# Altium schematic symbol library NXP Semiconductors Cortex-M0.SchLib: 92 symbols (part 4 of 5)
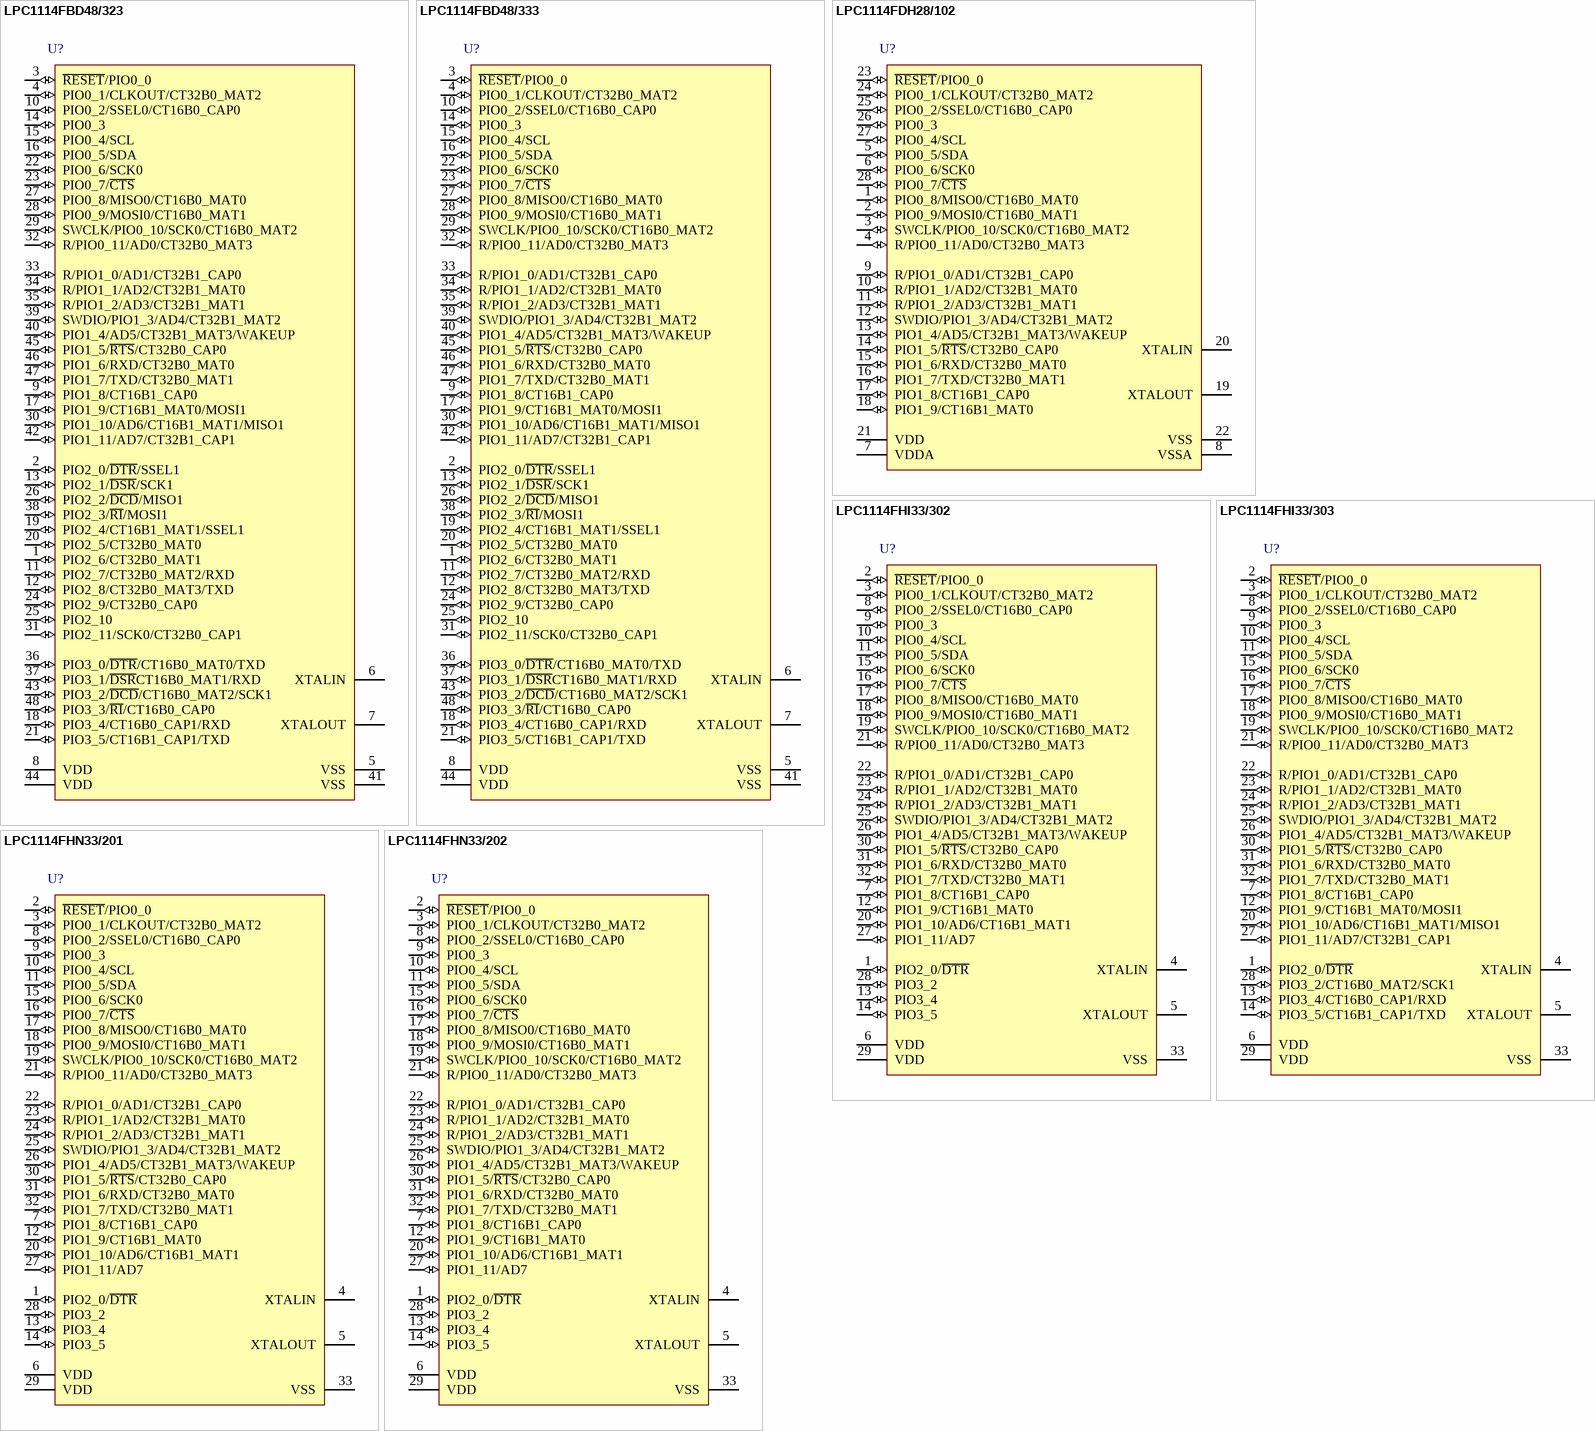
[diagram p19: symbols LPC1114FBD48/323 to LPC1114FHN33/202]

## LPC1114FHI33/302
designator U?
32-bit ARM Cortex-M0 MCU, LPC1100L Series, 32 kB Flash, 8 kB SRAM, 1 SPI, ADC, 32-Pin HVQFN; PartNumber: LPC1114FHI33/302; fmax: 50 MHz; SRAM: 8 kB; Flash: 32 kB; GPIOs: 28; UART: 1; PLL: Y; Timers: 4; ADC channels: 8; VDD (min): 1.8 V; VDD (typ): 3.3 V; VDD (max): 3.6 V; DatasheetVersion: Rev. 7.1, Apr-2012; PackageVersion: Jun-2011; PackageReference: SOT617-3; PackageDescription: HVQFN32: Plastic Thermal Enhanced Very Thin Quad Flat Package; No Leads; 32 Terminals; Body 5 x 5 x 0.85 mm; I2C: 1; SPI: 1; Code_JEDEC: MO-220; ComponentLink1Description: Manufacturer URL; ComponentLink1URL: http://www.nxp.com/; ComponentLink2Description: Datasheet; ComponentLink2URL: http://www.nxp.com/documents/data_sheet/LPC111X.pdf
footprint SOT617-3_V (QFN, 32-Leads, Body 5x5mm, Pitch 0.5mm, Thermal Pad 3.5x3.5mm, NXP Recommended)
pins: 1 PIO2_0/~{DTR} (io), 2 ~{RESET}/PIO0_0 (io), 3 PIO0_1/CLKOUT/CT32B0_MAT2 (io), 4 XTALIN, 5 XTALOUT, 6 VDD (power), 7 PIO1_8/CT16B1_CAP0 (io), 8 PIO0_2/SSEL0/CT16B0_CAP0 (io), 9 PIO0_3 (io), 10 PIO0_4/SCL (io), 11 PIO0_5/SDA (io), 12 PIO1_9/CT16B1_MAT0 (io), 13 PIO3_4 (io), 14 PIO3_5 (io), 15 PIO0_6/SCK0 (io), 16 PIO0_7/~{CTS} (io), 17 PIO0_8/MISO0/CT16B0_MAT0 (io), 18 PIO0_9/MOSI0/CT16B0_MAT1 (io), 19 SWCLK/PIO0_10/SCK0/CT16B0_MAT2 (io), 20 PIO1_10/AD6/CT16B1_MAT1 (io), 21 R/PIO0_11/AD0/CT32B0_MAT3 (io), 22 R/PIO1_0/AD1/CT32B1_CAP0 (io), 23 R/PIO1_1/AD2/CT32B1_MAT0 (io), 24 R/PIO1_2/AD3/CT32B1_MAT1 (io), 25 SWDIO/PIO1_3/AD4/CT32B1_MAT2 (io), 26 PIO1_4/AD5/CT32B1_MAT3/WAKEUP (io), 27 PIO1_11/AD7 (io), 28 PIO3_2 (io), 29 VDD (power), 30 PIO1_5/~{RTS}/CT32B0_CAP0 (io), 31 PIO1_6/RXD/CT32B0_MAT0 (io), 32 PIO1_7/TXD/CT32B0_MAT1 (io), 33 VSS (power)

## LPC1114FHI33/303
designator U?
32-bit ARM Cortex-M0 MCU, LPC1100XL Series, 32 kB Flash, 8 kB SRAM, 2 SPI, ADC, 32-Pin HVQFN; PartNumber: LPC1114FHI33/303; fmax: 50 MHz; SRAM: 8 kB; Flash: 32 kB; GPIOs: 28; UART: 1; SPI: 2; PLL: Y; Timers: 4; ADC channels: 8; VDD (min): 1.8 V; VDD (typ): 3.3 V; VDD (max): 3.6 V; DatasheetVersion: Rev. 7.1, Apr-2012; PackageVersion: Jun-2011; PackageReference: SOT617-3; PackageDescription: HVQFN32: Plastic Thermal Enhanced Very Thin Quad Flat Package; No Leads; 32 Terminals; Body 5 x 5 x 0.85 mm; I2C: 1; Code_JEDEC: MO-220; ComponentLink1Description: Manufacturer URL; ComponentLink1URL: http://www.nxp.com/; ComponentLink2Description: Datasheet; ComponentLink2URL: http://www.nxp.com/documents/data_sheet/LPC111X.pdf
footprint SOT617-3_V (QFN, 32-Leads, Body 5x5mm, Pitch 0.5mm, Thermal Pad 3.5x3.5mm, NXP Recommended)
pins: 1 PIO2_0/~{DTR} (io), 2 ~{RESET}/PIO0_0 (io), 3 PIO0_1/CLKOUT/CT32B0_MAT2 (io), 4 XTALIN, 5 XTALOUT, 6 VDD (power), 7 PIO1_8/CT16B1_CAP0 (io), 8 PIO0_2/SSEL0/CT16B0_CAP0 (io), 9 PIO0_3 (io), 10 PIO0_4/SCL (io), 11 PIO0_5/SDA (io), 12 PIO1_9/CT16B1_MAT0/MOSI1 (io), 13 PIO3_4/CT16B0_CAP1/RXD (io), 14 PIO3_5/CT16B1_CAP1/TXD (io), 15 PIO0_6/SCK0 (io), 16 PIO0_7/~{CTS} (io), 17 PIO0_8/MISO0/CT16B0_MAT0 (io), 18 PIO0_9/MOSI0/CT16B0_MAT1 (io), 19 SWCLK/PIO0_10/SCK0/CT16B0_MAT2 (io), 20 PIO1_10/AD6/CT16B1_MAT1/MISO1 (io), 21 R/PIO0_11/AD0/CT32B0_MAT3 (io), 22 R/PIO1_0/AD1/CT32B1_CAP0 (io), 23 R/PIO1_1/AD2/CT32B1_MAT0 (io), 24 R/PIO1_2/AD3/CT32B1_MAT1 (io), 25 SWDIO/PIO1_3/AD4/CT32B1_MAT2 (io), 26 PIO1_4/AD5/CT32B1_MAT3/WAKEUP (io), 27 PIO1_11/AD7/CT32B1_CAP1 (io), 28 PIO3_2/CT16B0_MAT2/SCK1 (io), 29 VDD (power), 30 PIO1_5/~{RTS}/CT32B0_CAP0 (io), 31 PIO1_6/RXD/CT32B0_MAT0 (io), 32 PIO1_7/TXD/CT32B0_MAT1 (io), 33 VSS (power)

## LPC1114FHN33/201
designator U?
32-bit ARM Cortex-M0 MCU, LPC1100 Series, 32 kB Flash, 4 kB SRAM, 1 SPI, ADC, 32-Pin HVQFN; PartNumber: LPC1114FHN33/201; fmax: 50 MHz; SRAM: 4 kB; Flash: 32 kB; GPIOs: 28; UART: 1; PLL: Y; Timers: 4; ADC channels: 8; VDD (min): 1.8 V; VDD (typ): 3.3 V; VDD (max): 3.6 V; DatasheetVersion: Rev. 7.1, Apr-2012; PackageVersion: Jun-2009; PackageReference: SOT865-3; PackageDescription: HVQFN32: Plastic Thermal Enhanced Very Thin Quad Flat Package; No Leads; 32 Terminals; Body 7 x 7 x 0.85 mm; I2C: 1; SPI: 1; Code_JEDEC: MO-220; ComponentLink1Description: Manufacturer URL; ComponentLink1URL: http://www.nxp.com/; ComponentLink2Description: Datasheet; ComponentLink2URL: http://www.nxp.com/documents/data_sheet/LPC111X.pdf
footprint SOT865-3_V (QFN, 32-Leads, Body 7x7mm, Pitch 0.65mm, Thermal Pad 4.7x4.7mm, NXP Recommended)
footprint SOT865-3_N (QFN, 32-Leads, Body 7x7mm, Pitch 0.65mm, Thermal Pad 4.9x4.9mm, IPC Medium Density)
footprint SOT865-3_L (QFN, 32-Leads, Body 7x7mm, Pitch 0.65mm, Thermal Pad 4.9x4.9mm, IPC High Density)
footprint SOT865-3_M (QFN, 32-Leads, Body 7x7mm, Pitch 0.65mm, Thermal Pad 4.9x4.9mm, IPC Low Density)
pins: 1 PIO2_0/~{DTR} (io), 2 ~{RESET}/PIO0_0 (io), 3 PIO0_1/CLKOUT/CT32B0_MAT2 (io), 4 XTALIN, 5 XTALOUT, 6 VDD (power), 7 PIO1_8/CT16B1_CAP0 (io), 8 PIO0_2/SSEL0/CT16B0_CAP0 (io), 9 PIO0_3 (io), 10 PIO0_4/SCL (io), 11 PIO0_5/SDA (io), 12 PIO1_9/CT16B1_MAT0 (io), 13 PIO3_4 (io), 14 PIO3_5 (io), 15 PIO0_6/SCK0 (io), 16 PIO0_7/~{CTS} (io), 17 PIO0_8/MISO0/CT16B0_MAT0 (io), 18 PIO0_9/MOSI0/CT16B0_MAT1 (io), 19 SWCLK/PIO0_10/SCK0/CT16B0_MAT2 (io), 20 PIO1_10/AD6/CT16B1_MAT1 (io), 21 R/PIO0_11/AD0/CT32B0_MAT3 (io), 22 R/PIO1_0/AD1/CT32B1_CAP0 (io), 23 R/PIO1_1/AD2/CT32B1_MAT0 (io), 24 R/PIO1_2/AD3/CT32B1_MAT1 (io), 25 SWDIO/PIO1_3/AD4/CT32B1_MAT2 (io), 26 PIO1_4/AD5/CT32B1_MAT3/WAKEUP (io), 27 PIO1_11/AD7 (io), 28 PIO3_2 (io), 29 VDD (power), 30 PIO1_5/~{RTS}/CT32B0_CAP0 (io), 31 PIO1_6/RXD/CT32B0_MAT0 (io), 32 PIO1_7/TXD/CT32B0_MAT1 (io), 33 VSS (power)

## LPC1114FHN33/202
designator U?
32-bit ARM Cortex-M0 MCU, LPC1100L Series, 32 kB Flash, 4 kB SRAM, 1 SPI, ADC, 32-Pin HVQFN; PartNumber: LPC1114FHN33/202; fmax: 50 MHz; SRAM: 4 kB; Flash: 32 kB; GPIOs: 28; UART: 1; PLL: Y; Timers: 4; ADC channels: 8; VDD (min): 1.8 V; VDD (typ): 3.3 V; VDD (max): 3.6 V; DatasheetVersion: Rev. 7.1, Apr-2012; PackageVersion: Jun-2009; PackageReference: SOT865-3; PackageDescription: HVQFN32: Plastic Thermal Enhanced Very Thin Quad Flat Package; No Leads; 32 Terminals; Body 7 x 7 x 0.85 mm; I2C: 1; SPI: 1; Code_JEDEC: MO-220; ComponentLink1Description: Manufacturer URL; ComponentLink1URL: http://www.nxp.com/; ComponentLink2Description: Datasheet; ComponentLink2URL: http://www.nxp.com/documents/data_sheet/LPC111X.pdf
footprint SOT865-3_V (QFN, 32-Leads, Body 7x7mm, Pitch 0.65mm, Thermal Pad 4.7x4.7mm, NXP Recommended)
footprint SOT865-3_N (QFN, 32-Leads, Body 7x7mm, Pitch 0.65mm, Thermal Pad 4.9x4.9mm, IPC Medium Density)
footprint SOT865-3_L (QFN, 32-Leads, Body 7x7mm, Pitch 0.65mm, Thermal Pad 4.9x4.9mm, IPC High Density)
footprint SOT865-3_M (QFN, 32-Leads, Body 7x7mm, Pitch 0.65mm, Thermal Pad 4.9x4.9mm, IPC Low Density)
pins: 1 PIO2_0/~{DTR} (io), 2 ~{RESET}/PIO0_0 (io), 3 PIO0_1/CLKOUT/CT32B0_MAT2 (io), 4 XTALIN, 5 XTALOUT, 6 VDD (power), 7 PIO1_8/CT16B1_CAP0 (io), 8 PIO0_2/SSEL0/CT16B0_CAP0 (io), 9 PIO0_3 (io), 10 PIO0_4/SCL (io), 11 PIO0_5/SDA (io), 12 PIO1_9/CT16B1_MAT0 (io), 13 PIO3_4 (io), 14 PIO3_5 (io), 15 PIO0_6/SCK0 (io), 16 PIO0_7/~{CTS} (io), 17 PIO0_8/MISO0/CT16B0_MAT0 (io), 18 PIO0_9/MOSI0/CT16B0_MAT1 (io), 19 SWCLK/PIO0_10/SCK0/CT16B0_MAT2 (io), 20 PIO1_10/AD6/CT16B1_MAT1 (io), 21 R/PIO0_11/AD0/CT32B0_MAT3 (io), 22 R/PIO1_0/AD1/CT32B1_CAP0 (io), 23 R/PIO1_1/AD2/CT32B1_MAT0 (io), 24 R/PIO1_2/AD3/CT32B1_MAT1 (io), 25 SWDIO/PIO1_3/AD4/CT32B1_MAT2 (io), 26 PIO1_4/AD5/CT32B1_MAT3/WAKEUP (io), 27 PIO1_11/AD7 (io), 28 PIO3_2 (io), 29 VDD (power), 30 PIO1_5/~{RTS}/CT32B0_CAP0 (io), 31 PIO1_6/RXD/CT32B0_MAT0 (io), 32 PIO1_7/TXD/CT32B0_MAT1 (io), 33 VSS (power)

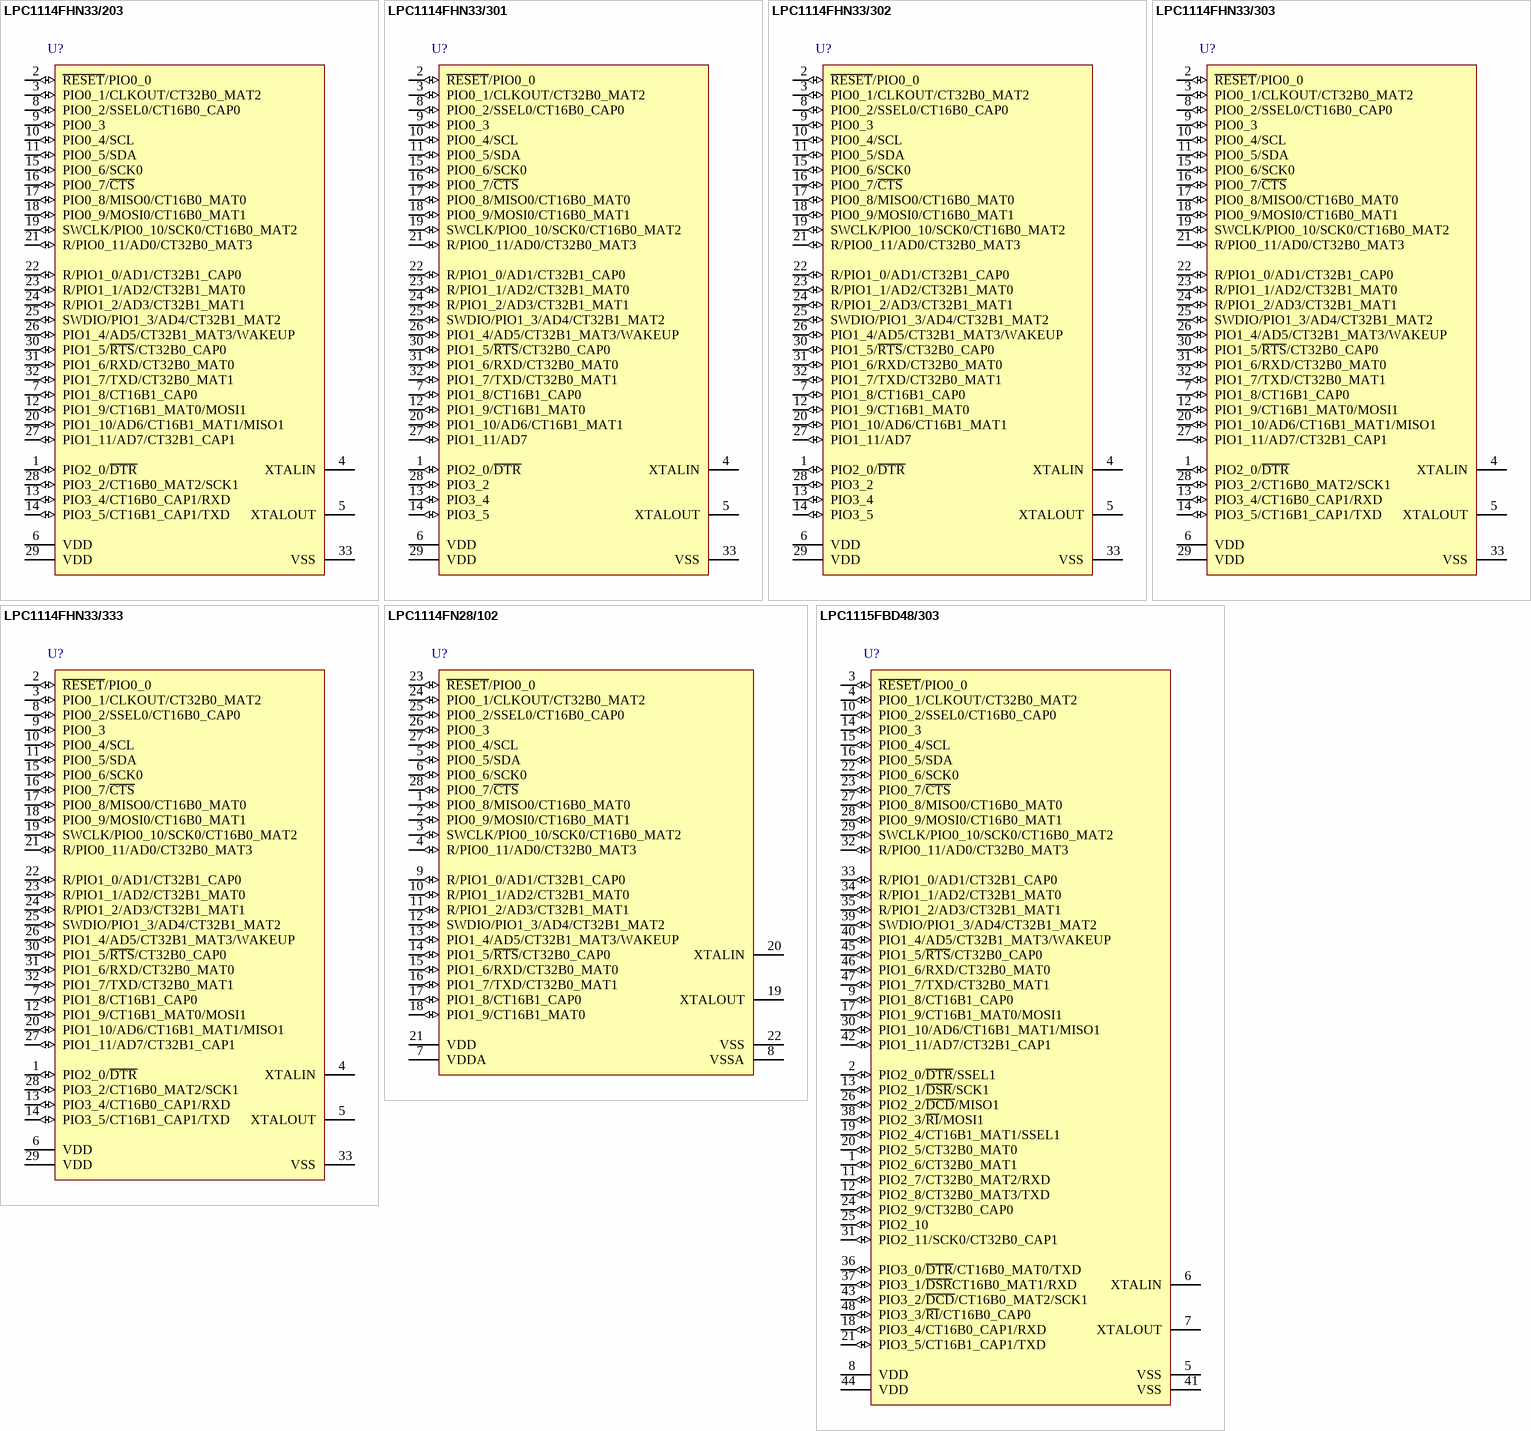
[diagram p12: symbols LPC1114FHN33/203 to LPC1115FBD48/303]

## LPC1114FHN33/203
designator U?
32-bit ARM Cortex-M0 MCU, LPC1100XL Series, 32 kB Flash, 4 kB SRAM, 2 SPI, ADC, 32-Pin HVQFN; PartNumber: LPC1114FHN33/203; fmax: 50 MHz; SRAM: 4 kB; Flash: 32 kB; GPIOs: 28; UART: 1; SPI: 2; PLL: Y; Timers: 4; ADC channels: 8; VDD (min): 1.8 V; VDD (typ): 3.3 V; VDD (max): 3.6 V; DatasheetVersion: Rev. 7.1, Apr-2012; PackageVersion: Jun-2009; PackageReference: SOT865-3; PackageDescription: HVQFN32: Plastic Thermal Enhanced Very Thin Quad Flat Package; No Leads; 32 Terminals; Body 7 x 7 x 0.85 mm; I2C: 1; Code_JEDEC: MO-220; ComponentLink1Description: Manufacturer URL; ComponentLink1URL: http://www.nxp.com/; ComponentLink2Description: Datasheet; ComponentLink2URL: http://www.nxp.com/documents/data_sheet/LPC111X.pdf
footprint SOT865-3_V (QFN, 32-Leads, Body 7x7mm, Pitch 0.65mm, Thermal Pad 4.7x4.7mm, NXP Recommended)
footprint SOT865-3_N (QFN, 32-Leads, Body 7x7mm, Pitch 0.65mm, Thermal Pad 4.9x4.9mm, IPC Medium Density)
footprint SOT865-3_L (QFN, 32-Leads, Body 7x7mm, Pitch 0.65mm, Thermal Pad 4.9x4.9mm, IPC High Density)
footprint SOT865-3_M (QFN, 32-Leads, Body 7x7mm, Pitch 0.65mm, Thermal Pad 4.9x4.9mm, IPC Low Density)
pins: 1 PIO2_0/~{DTR} (io), 2 ~{RESET}/PIO0_0 (io), 3 PIO0_1/CLKOUT/CT32B0_MAT2 (io), 4 XTALIN, 5 XTALOUT, 6 VDD (power), 7 PIO1_8/CT16B1_CAP0 (io), 8 PIO0_2/SSEL0/CT16B0_CAP0 (io), 9 PIO0_3 (io), 10 PIO0_4/SCL (io), 11 PIO0_5/SDA (io), 12 PIO1_9/CT16B1_MAT0/MOSI1 (io), 13 PIO3_4/CT16B0_CAP1/RXD (io), 14 PIO3_5/CT16B1_CAP1/TXD (io), 15 PIO0_6/SCK0 (io), 16 PIO0_7/~{CTS} (io), 17 PIO0_8/MISO0/CT16B0_MAT0 (io), 18 PIO0_9/MOSI0/CT16B0_MAT1 (io), 19 SWCLK/PIO0_10/SCK0/CT16B0_MAT2 (io), 20 PIO1_10/AD6/CT16B1_MAT1/MISO1 (io), 21 R/PIO0_11/AD0/CT32B0_MAT3 (io), 22 R/PIO1_0/AD1/CT32B1_CAP0 (io), 23 R/PIO1_1/AD2/CT32B1_MAT0 (io), 24 R/PIO1_2/AD3/CT32B1_MAT1 (io), 25 SWDIO/PIO1_3/AD4/CT32B1_MAT2 (io), 26 PIO1_4/AD5/CT32B1_MAT3/WAKEUP (io), 27 PIO1_11/AD7/CT32B1_CAP1 (io), 28 PIO3_2/CT16B0_MAT2/SCK1 (io), 29 VDD (power), 30 PIO1_5/~{RTS}/CT32B0_CAP0 (io), 31 PIO1_6/RXD/CT32B0_MAT0 (io), 32 PIO1_7/TXD/CT32B0_MAT1 (io), 33 VSS (power)

## LPC1114FHN33/301
designator U?
32-bit ARM Cortex-M0 MCU, LPC1100 Series, 32 kB Flash, 8 kB SRAM, 1 SPI, ADC, 32-Pin HVQFN; PartNumber: LPC1114FHN33/301; fmax: 50 MHz; SRAM: 8 kB; Flash: 32 kB; GPIOs: 28; UART: 1; PLL: Y; Timers: 4; ADC channels: 8; VDD (min): 1.8 V; VDD (typ): 3.3 V; VDD (max): 3.6 V; DatasheetVersion: Rev. 7.1, Apr-2012; PackageVersion: Jun-2009; PackageReference: SOT865-3; PackageDescription: HVQFN32: Plastic Thermal Enhanced Very Thin Quad Flat Package; No Leads; 32 Terminals; Body 7 x 7 x 0.85 mm; I2C: 1; SPI: 1; Code_JEDEC: MO-220; ComponentLink1Description: Manufacturer URL; ComponentLink1URL: http://www.nxp.com/; ComponentLink2Description: Datasheet; ComponentLink2URL: http://www.nxp.com/documents/data_sheet/LPC111X.pdf
footprint SOT865-3_V (QFN, 32-Leads, Body 7x7mm, Pitch 0.65mm, Thermal Pad 4.7x4.7mm, NXP Recommended)
footprint SOT865-3_N (QFN, 32-Leads, Body 7x7mm, Pitch 0.65mm, Thermal Pad 4.9x4.9mm, IPC Medium Density)
footprint SOT865-3_L (QFN, 32-Leads, Body 7x7mm, Pitch 0.65mm, Thermal Pad 4.9x4.9mm, IPC High Density)
footprint SOT865-3_M (QFN, 32-Leads, Body 7x7mm, Pitch 0.65mm, Thermal Pad 4.9x4.9mm, IPC Low Density)
pins: 1 PIO2_0/~{DTR} (io), 2 ~{RESET}/PIO0_0 (io), 3 PIO0_1/CLKOUT/CT32B0_MAT2 (io), 4 XTALIN, 5 XTALOUT, 6 VDD (power), 7 PIO1_8/CT16B1_CAP0 (io), 8 PIO0_2/SSEL0/CT16B0_CAP0 (io), 9 PIO0_3 (io), 10 PIO0_4/SCL (io), 11 PIO0_5/SDA (io), 12 PIO1_9/CT16B1_MAT0 (io), 13 PIO3_4 (io), 14 PIO3_5 (io), 15 PIO0_6/SCK0 (io), 16 PIO0_7/~{CTS} (io), 17 PIO0_8/MISO0/CT16B0_MAT0 (io), 18 PIO0_9/MOSI0/CT16B0_MAT1 (io), 19 SWCLK/PIO0_10/SCK0/CT16B0_MAT2 (io), 20 PIO1_10/AD6/CT16B1_MAT1 (io), 21 R/PIO0_11/AD0/CT32B0_MAT3 (io), 22 R/PIO1_0/AD1/CT32B1_CAP0 (io), 23 R/PIO1_1/AD2/CT32B1_MAT0 (io), 24 R/PIO1_2/AD3/CT32B1_MAT1 (io), 25 SWDIO/PIO1_3/AD4/CT32B1_MAT2 (io), 26 PIO1_4/AD5/CT32B1_MAT3/WAKEUP (io), 27 PIO1_11/AD7 (io), 28 PIO3_2 (io), 29 VDD (power), 30 PIO1_5/~{RTS}/CT32B0_CAP0 (io), 31 PIO1_6/RXD/CT32B0_MAT0 (io), 32 PIO1_7/TXD/CT32B0_MAT1 (io), 33 VSS (power)

## LPC1114FHN33/302
designator U?
32-bit ARM Cortex-M0 MCU, LPC1100L Series, 32 kB Flash, 8 kB SRAM, 1 SPI, ADC, 32-Pin HVQFN; PartNumber: LPC1114FHN33/302; fmax: 50 MHz; SRAM: 8 kB; Flash: 32 kB; GPIOs: 28; UART: 1; PLL: Y; Timers: 4; ADC channels: 8; VDD (min): 1.8 V; VDD (typ): 3.3 V; VDD (max): 3.6 V; DatasheetVersion: Rev. 7.1, Apr-2012; PackageVersion: Jun-2009; PackageReference: SOT865-3; PackageDescription: HVQFN32: Plastic Thermal Enhanced Very Thin Quad Flat Package; No Leads; 32 Terminals; Body 7 x 7 x 0.85 mm; I2C: 1; SPI: 1; Code_JEDEC: MO-220; ComponentLink1Description: Manufacturer URL; ComponentLink1URL: http://www.nxp.com/; ComponentLink2Description: Datasheet; ComponentLink2URL: http://www.nxp.com/documents/data_sheet/LPC111X.pdf
footprint SOT865-3_V (QFN, 32-Leads, Body 7x7mm, Pitch 0.65mm, Thermal Pad 4.7x4.7mm, NXP Recommended)
footprint SOT865-3_N (QFN, 32-Leads, Body 7x7mm, Pitch 0.65mm, Thermal Pad 4.9x4.9mm, IPC Medium Density)
footprint SOT865-3_L (QFN, 32-Leads, Body 7x7mm, Pitch 0.65mm, Thermal Pad 4.9x4.9mm, IPC High Density)
footprint SOT865-3_M (QFN, 32-Leads, Body 7x7mm, Pitch 0.65mm, Thermal Pad 4.9x4.9mm, IPC Low Density)
pins: 1 PIO2_0/~{DTR} (io), 2 ~{RESET}/PIO0_0 (io), 3 PIO0_1/CLKOUT/CT32B0_MAT2 (io), 4 XTALIN, 5 XTALOUT, 6 VDD (power), 7 PIO1_8/CT16B1_CAP0 (io), 8 PIO0_2/SSEL0/CT16B0_CAP0 (io), 9 PIO0_3 (io), 10 PIO0_4/SCL (io), 11 PIO0_5/SDA (io), 12 PIO1_9/CT16B1_MAT0 (io), 13 PIO3_4 (io), 14 PIO3_5 (io), 15 PIO0_6/SCK0 (io), 16 PIO0_7/~{CTS} (io), 17 PIO0_8/MISO0/CT16B0_MAT0 (io), 18 PIO0_9/MOSI0/CT16B0_MAT1 (io), 19 SWCLK/PIO0_10/SCK0/CT16B0_MAT2 (io), 20 PIO1_10/AD6/CT16B1_MAT1 (io), 21 R/PIO0_11/AD0/CT32B0_MAT3 (io), 22 R/PIO1_0/AD1/CT32B1_CAP0 (io), 23 R/PIO1_1/AD2/CT32B1_MAT0 (io), 24 R/PIO1_2/AD3/CT32B1_MAT1 (io), 25 SWDIO/PIO1_3/AD4/CT32B1_MAT2 (io), 26 PIO1_4/AD5/CT32B1_MAT3/WAKEUP (io), 27 PIO1_11/AD7 (io), 28 PIO3_2 (io), 29 VDD (power), 30 PIO1_5/~{RTS}/CT32B0_CAP0 (io), 31 PIO1_6/RXD/CT32B0_MAT0 (io), 32 PIO1_7/TXD/CT32B0_MAT1 (io), 33 VSS (power)

## LPC1114FHN33/303
designator U?
32-bit ARM Cortex-M0 MCU, LPC1100XL Series, 32 kB Flash, 8 kB SRAM, 2 SPI, ADC, 32-Pin HVQFN; PartNumber: LPC1114FHN33/303; fmax: 50 MHz; SRAM: 8 kB; Flash: 32 kB; GPIOs: 28; UART: 1; SPI: 2; PLL: Y; Timers: 4; ADC channels: 8; VDD (min): 1.8 V; VDD (typ): 3.3 V; VDD (max): 3.6 V; DatasheetVersion: Rev. 7.1, Apr-2012; PackageVersion: Jun-2009; PackageReference: SOT865-3; PackageDescription: HVQFN32: Plastic Thermal Enhanced Very Thin Quad Flat Package; No Leads; 32 Terminals; Body 7 x 7 x 0.85 mm; I2C: 1; Code_JEDEC: MO-220; ComponentLink1Description: Manufacturer URL; ComponentLink1URL: http://www.nxp.com/; ComponentLink2Description: Datasheet; ComponentLink2URL: http://www.nxp.com/documents/data_sheet/LPC111X.pdf
footprint SOT865-3_V (QFN, 32-Leads, Body 7x7mm, Pitch 0.65mm, Thermal Pad 4.7x4.7mm, NXP Recommended)
footprint SOT865-3_N (QFN, 32-Leads, Body 7x7mm, Pitch 0.65mm, Thermal Pad 4.9x4.9mm, IPC Medium Density)
footprint SOT865-3_L (QFN, 32-Leads, Body 7x7mm, Pitch 0.65mm, Thermal Pad 4.9x4.9mm, IPC High Density)
footprint SOT865-3_M (QFN, 32-Leads, Body 7x7mm, Pitch 0.65mm, Thermal Pad 4.9x4.9mm, IPC Low Density)
pins: 1 PIO2_0/~{DTR} (io), 2 ~{RESET}/PIO0_0 (io), 3 PIO0_1/CLKOUT/CT32B0_MAT2 (io), 4 XTALIN, 5 XTALOUT, 6 VDD (power), 7 PIO1_8/CT16B1_CAP0 (io), 8 PIO0_2/SSEL0/CT16B0_CAP0 (io), 9 PIO0_3 (io), 10 PIO0_4/SCL (io), 11 PIO0_5/SDA (io), 12 PIO1_9/CT16B1_MAT0/MOSI1 (io), 13 PIO3_4/CT16B0_CAP1/RXD (io), 14 PIO3_5/CT16B1_CAP1/TXD (io), 15 PIO0_6/SCK0 (io), 16 PIO0_7/~{CTS} (io), 17 PIO0_8/MISO0/CT16B0_MAT0 (io), 18 PIO0_9/MOSI0/CT16B0_MAT1 (io), 19 SWCLK/PIO0_10/SCK0/CT16B0_MAT2 (io), 20 PIO1_10/AD6/CT16B1_MAT1/MISO1 (io), 21 R/PIO0_11/AD0/CT32B0_MAT3 (io), 22 R/PIO1_0/AD1/CT32B1_CAP0 (io), 23 R/PIO1_1/AD2/CT32B1_MAT0 (io), 24 R/PIO1_2/AD3/CT32B1_MAT1 (io), 25 SWDIO/PIO1_3/AD4/CT32B1_MAT2 (io), 26 PIO1_4/AD5/CT32B1_MAT3/WAKEUP (io), 27 PIO1_11/AD7/CT32B1_CAP1 (io), 28 PIO3_2/CT16B0_MAT2/SCK1 (io), 29 VDD (power), 30 PIO1_5/~{RTS}/CT32B0_CAP0 (io), 31 PIO1_6/RXD/CT32B0_MAT0 (io), 32 PIO1_7/TXD/CT32B0_MAT1 (io), 33 VSS (power)

## LPC1114FHN33/333
designator U?
32-bit ARM Cortex-M0 MCU, LPC1100XL Series, 32 kB Flash, 8 kB SRAM, 2 SPI, ADC, 32-Pin HVQFN; PartNumber: LPC1114FHN33/333; fmax: 50 MHz; SRAM: 8 kB; Flash: 32 kB; GPIOs: 28; UART: 1; SPI: 2; PLL: Y; Timers: 4; ADC channels: 8; VDD (min): 1.8 V; VDD (typ): 3.3 V; VDD (max): 3.6 V; DatasheetVersion: Rev. 7.1, Apr-2012; PackageVersion: Jun-2009; PackageReference: SOT865-3; PackageDescription: HVQFN32: Plastic Thermal Enhanced Very Thin Quad Flat Package; No Leads; 32 Terminals; Body 7 x 7 x 0.85 mm; I2C: 1; Code_JEDEC: MO-220; ComponentLink1Description: Manufacturer URL; ComponentLink1URL: http://www.nxp.com/; ComponentLink2Description: Datasheet; ComponentLink2URL: http://www.nxp.com/documents/data_sheet/LPC111X.pdf
footprint SOT865-3_V (QFN, 32-Leads, Body 7x7mm, Pitch 0.65mm, Thermal Pad 4.7x4.7mm, NXP Recommended)
footprint SOT865-3_N (QFN, 32-Leads, Body 7x7mm, Pitch 0.65mm, Thermal Pad 4.9x4.9mm, IPC Medium Density)
footprint SOT865-3_L (QFN, 32-Leads, Body 7x7mm, Pitch 0.65mm, Thermal Pad 4.9x4.9mm, IPC High Density)
footprint SOT865-3_M (QFN, 32-Leads, Body 7x7mm, Pitch 0.65mm, Thermal Pad 4.9x4.9mm, IPC Low Density)
pins: 1 PIO2_0/~{DTR} (io), 2 ~{RESET}/PIO0_0 (io), 3 PIO0_1/CLKOUT/CT32B0_MAT2 (io), 4 XTALIN, 5 XTALOUT, 6 VDD (power), 7 PIO1_8/CT16B1_CAP0 (io), 8 PIO0_2/SSEL0/CT16B0_CAP0 (io), 9 PIO0_3 (io), 10 PIO0_4/SCL (io), 11 PIO0_5/SDA (io), 12 PIO1_9/CT16B1_MAT0/MOSI1 (io), 13 PIO3_4/CT16B0_CAP1/RXD (io), 14 PIO3_5/CT16B1_CAP1/TXD (io), 15 PIO0_6/SCK0 (io), 16 PIO0_7/~{CTS} (io), 17 PIO0_8/MISO0/CT16B0_MAT0 (io), 18 PIO0_9/MOSI0/CT16B0_MAT1 (io), 19 SWCLK/PIO0_10/SCK0/CT16B0_MAT2 (io), 20 PIO1_10/AD6/CT16B1_MAT1/MISO1 (io), 21 R/PIO0_11/AD0/CT32B0_MAT3 (io), 22 R/PIO1_0/AD1/CT32B1_CAP0 (io), 23 R/PIO1_1/AD2/CT32B1_MAT0 (io), 24 R/PIO1_2/AD3/CT32B1_MAT1 (io), 25 SWDIO/PIO1_3/AD4/CT32B1_MAT2 (io), 26 PIO1_4/AD5/CT32B1_MAT3/WAKEUP (io), 27 PIO1_11/AD7/CT32B1_CAP1 (io), 28 PIO3_2/CT16B0_MAT2/SCK1 (io), 29 VDD (power), 30 PIO1_5/~{RTS}/CT32B0_CAP0 (io), 31 PIO1_6/RXD/CT32B0_MAT0 (io), 32 PIO1_7/TXD/CT32B0_MAT1 (io), 33 VSS (power)

## LPC1114FN28/102
designator U?
32-bit ARM Cortex-M0 MCU, LPC1100L Series, 32 kB Flash, 8 kB SRAM, 1 SPI, ADC, 28-Pin DIP; PartNumber: LPC1114FN28/102; fmax: 50 MHz; SRAM: 8 kB; Flash: 32 kB; GPIOs: 22; UART: 1; PLL: Y; Timers: 4; ADC channels: 6; VDD (min): 1.8 V; VDD (typ): 3.3 V; VDD (max): 3.6 V; Code_IEC: 051G05; DatasheetVersion: Rev. 7.1, Apr-2012; PackageVersion: Feb-2003; PackageReference: SOT117-1; PackageDescription: DIP28: Plastic Dual In-Line Package; 28 Leads (600 mil); I2C: 1; SPI: 1; Code_JEITA: SC-510-28; Code_JEDEC: MO-015; ComponentLink1Description: Manufacturer URL; ComponentLink1URL: http://www.nxp.com/; ComponentLink2Description: Datasheet; ComponentLink2URL: http://www.nxp.com/documents/data_sheet/LPC111X.pdf
footprint SOT117-1 (DIP, 28-Leads, Row Spacing 15.24mm, Pitch 2.54mm, Body 34.9x14mm)
pins: 1 PIO0_8/MISO0/CT16B0_MAT0 (io), 2 PIO0_9/MOSI0/CT16B0_MAT1 (io), 3 SWCLK/PIO0_10/SCK0/CT16B0_MAT2 (io), 4 R/PIO0_11/AD0/CT32B0_MAT3 (io), 5 PIO0_5/SDA (io), 6 PIO0_6/SCK0 (io), 7 VDDA (power), 8 VSSA (power), 9 R/PIO1_0/AD1/CT32B1_CAP0 (io), 10 R/PIO1_1/AD2/CT32B1_MAT0 (io), 11 R/PIO1_2/AD3/CT32B1_MAT1 (io), 12 SWDIO/PIO1_3/AD4/CT32B1_MAT2 (io), 13 PIO1_4/AD5/CT32B1_MAT3/WAKEUP (io), 14 PIO1_5/~{RTS}/CT32B0_CAP0 (io), 15 PIO1_6/RXD/CT32B0_MAT0 (io), 16 PIO1_7/TXD/CT32B0_MAT1 (io), 17 PIO1_8/CT16B1_CAP0 (io), 18 PIO1_9/CT16B1_MAT0 (io), 19 XTALOUT, 20 XTALIN, 21 VDD (power), 22 VSS (power), 23 ~{RESET}/PIO0_0 (io), 24 PIO0_1/CLKOUT/CT32B0_MAT2 (io), 25 PIO0_2/SSEL0/CT16B0_CAP0 (io), 26 PIO0_3 (io), 27 PIO0_4/SCL (io), 28 PIO0_7/~{CTS} (io)

## LPC1115FBD48/303
designator U?
32-bit ARM Cortex-M0 MCU, LPC1100XL Series, 64 kB Flash, 8 kB SRAM, 2 SPI, ADC, 48-Pin LQFP; PartNumber: LPC1115FBD48/303; fmax: 50 MHz; SRAM: 8 kB; Flash: 64 kB; GPIOs: 42; UART: 1; SPI: 2; PLL: Y; Timers: 4; ADC channels: 8; VDD (min): 1.8 V; VDD (typ): 3.3 V; VDD (max): 3.6 V; Code_IEC: 136E05; DatasheetVersion: Rev. 7.1, Apr-2012; PackageVersion: Feb-2003; PackageReference: SOT313-2; PackageDescription: LQFP48: Plastic Low Profile Quad Flat Package; 48 Leads; Body 7 x 7 x 1.4 mm; I2C: 1; Code_JEDEC: MS-026; ComponentLink1Description: Manufacturer URL; ComponentLink1URL: http://www.nxp.com/; ComponentLink2Description: Datasheet; ComponentLink2URL: http://www.nxp.com/documents/data_sheet/LPC111X.pdf
footprint SOT313-2_V (Thin QFP, 48-Leads, Body 7x7mm, Pitch 0.5mm, NXP Recommended)
pins: 1 PIO2_6/CT32B0_MAT1 (io), 2 PIO2_0/~{DTR}/SSEL1 (io), 3 ~{RESET}/PIO0_0 (io), 4 PIO0_1/CLKOUT/CT32B0_MAT2 (io), 5 VSS (power), 6 XTALIN, 7 XTALOUT, 8 VDD (power), 9 PIO1_8/CT16B1_CAP0 (io), 10 PIO0_2/SSEL0/CT16B0_CAP0 (io), 11 PIO2_7/CT32B0_MAT2/RXD (io), 12 PIO2_8/CT32B0_MAT3/TXD (io), 13 PIO2_1/~{DSR}/SCK1 (io), 14 PIO0_3 (io), 15 PIO0_4/SCL (io), 16 PIO0_5/SDA (io), 17 PIO1_9/CT16B1_MAT0/MOSI1 (io), 18 PIO3_4/CT16B0_CAP1/RXD (io), 19 PIO2_4/CT16B1_MAT1/SSEL1 (io), 20 PIO2_5/CT32B0_MAT0 (io), 21 PIO3_5/CT16B1_CAP1/TXD (io), 22 PIO0_6/SCK0 (io), 23 PIO0_7/~{CTS} (io), 24 PIO2_9/CT32B0_CAP0 (io), 25 PIO2_10 (io), 26 PIO2_2/~{DCD}/MISO1 (io), 27 PIO0_8/MISO0/CT16B0_MAT0 (io), 28 PIO0_9/MOSI0/CT16B0_MAT1 (io), 29 SWCLK/PIO0_10/SCK0/CT16B0_MAT2 (io), 30 PIO1_10/AD6/CT16B1_MAT1/MISO1 (io), 31 PIO2_11/SCK0/CT32B0_CAP1 (io), 32 R/PIO0_11/AD0/CT32B0_MAT3 (io), 33 R/PIO1_0/AD1/CT32B1_CAP0 (io), 34 R/PIO1_1/AD2/CT32B1_MAT0 (io), 35 R/PIO1_2/AD3/CT32B1_MAT1 (io), 36 PIO3_0/~{DTR}/CT16B0_MAT0/TXD (io), 37 PIO3_1/~{DSR}CT16B0_MAT1/RXD (io), 38 PIO2_3/~{RI}/MOSI1 (io), 39 SWDIO/PIO1_3/AD4/CT32B1_MAT2 (io), 40 PIO1_4/AD5/CT32B1_MAT3/WAKEUP (io), 41 VSS (power), 42 PIO1_11/AD7/CT32B1_CAP1 (io), 43 PIO3_2/~{DCD}/CT16B0_MAT2/SCK1 (io), 44 VDD (power), 45 PIO1_5/~{RTS}/CT32B0_CAP0 (io), 46 PIO1_6/RXD/CT32B0_MAT0 (io), 47 PIO1_7/TXD/CT32B0_MAT1 (io), 48 PIO3_3/~{RI}/CT16B0_CAP0 (io)

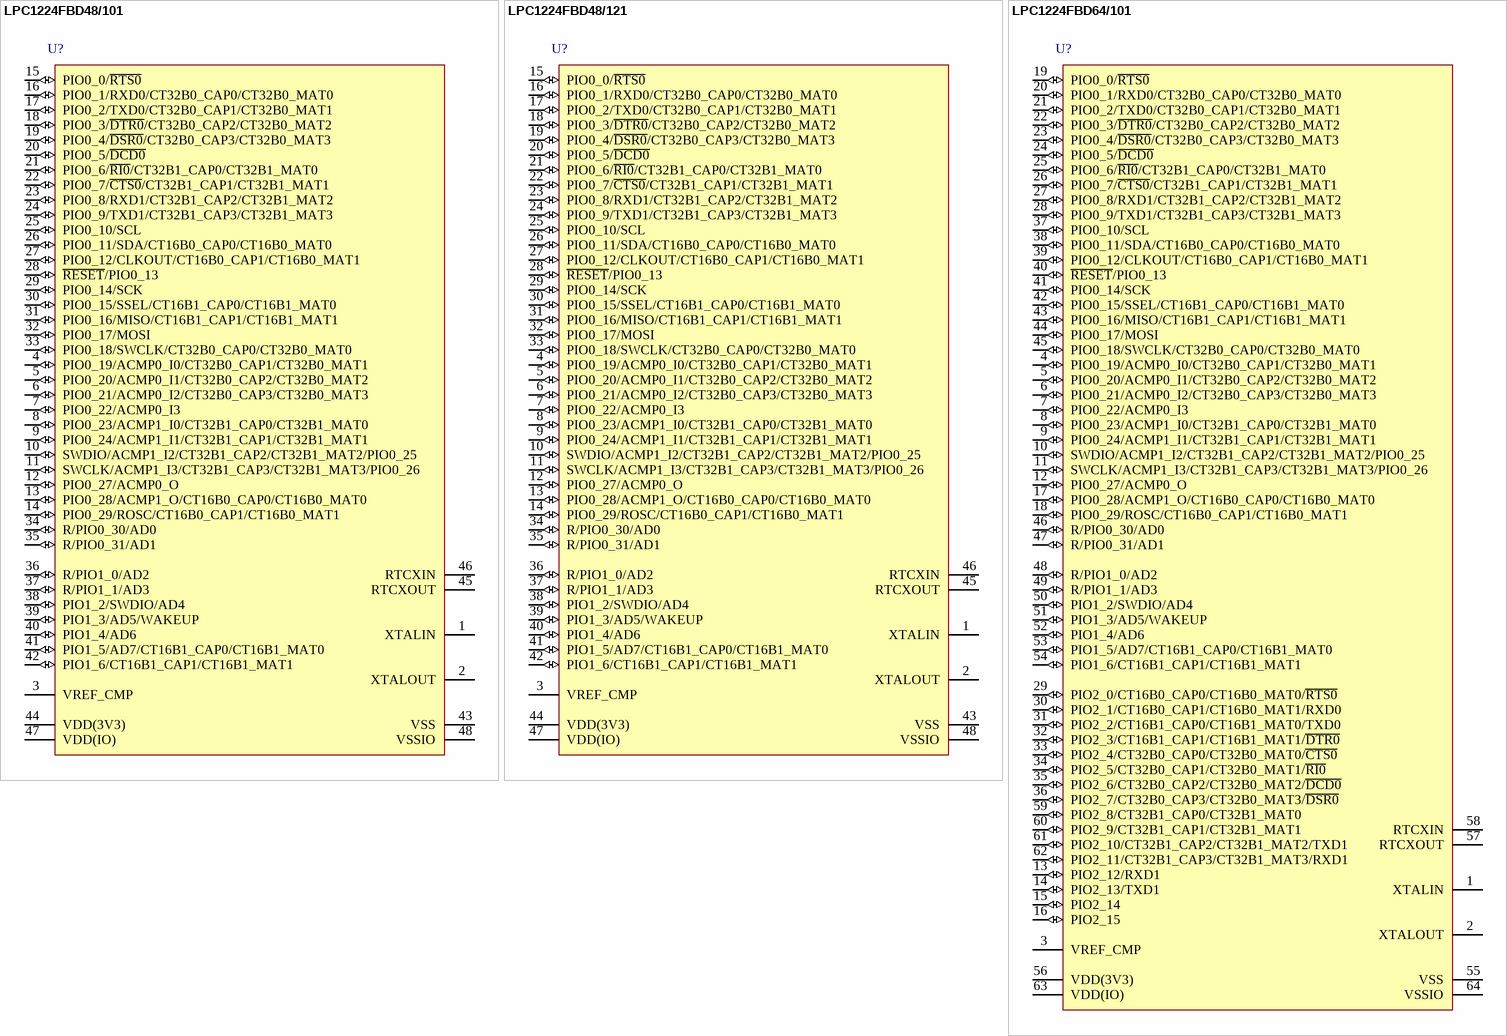
[diagram p13: symbols LPC1224FBD48/101 to LPC1224FBD64/101]

## LPC1224FBD48/101
designator U?
32-bit ARM Cortex-M0 MCU, 32 kB Flash, 4 kB SRAM, RTC, Comparator, 10-Bit ADC, CRC, DMA, 32-Pin LQFP; PartNumber: LPC1224FBD48/101; fmax: 45 MHz; SRAM: 4 kB; Flash: 32 kB; GPIOs: 39; UART: 2; I2C: 1; PLL: Y; Timers: 4; ADC channels: 8; VDD (min): 3 V; VDD (typ): 3.3 V; VDD (max): 3.6 V; Code_IEC: 136E05; DatasheetVersion: Rev. 2, Aug-2011; PackageVersion: Feb-2003; PackageReference: SOT313-2; PackageDescription: LQFP48: Plastic Low Profile Quad Flat Package; 48 Leads; Body 7 x 7 x 1.4 mm; SPI: 1; SSP: 1; Code_JEDEC: MS-026; ComponentLink1Description: Manufacturer URL; ComponentLink1URL: http://www.nxp.com/; ComponentLink2Description: Datasheet; ComponentLink2URL: http://www.nxp.com/documents/data_sheet/LPC122X.pdf
footprint SOT313-2_V (Thin QFP, 48-Leads, Body 7x7mm, Pitch 0.5mm, NXP Recommended)
pins: 1 XTALIN, 2 XTALOUT, 3 VREF_CMP (power), 4 PIO0_19/ACMP0_I0/CT32B0_CAP1/CT32B0_MAT1 (io), 5 PIO0_20/ACMP0_I1/CT32B0_CAP2/CT32B0_MAT2 (io), 6 PIO0_21/ACMP0_I2/CT32B0_CAP3/CT32B0_MAT3 (io), 7 PIO0_22/ACMP0_I3 (io), 8 PIO0_23/ACMP1_I0/CT32B1_CAP0/CT32B1_MAT0 (io), 9 PIO0_24/ACMP1_I1/CT32B1_CAP1/CT32B1_MAT1 (io), 10 SWDIO/ACMP1_I2/CT32B1_CAP2/CT32B1_MAT2/PIO0_25 (io), 11 SWCLK/ACMP1_I3/CT32B1_CAP3/CT32B1_MAT3/PIO0_26 (io), 12 PIO0_27/ACMP0_O (io), 13 PIO0_28/ACMP1_O/CT16B0_CAP0/CT16B0_MAT0 (io), 14 PIO0_29/ROSC/CT16B0_CAP1/CT16B0_MAT1 (io), 15 PIO0_0/~{RTS0} (io), 16 PIO0_1/RXD0/CT32B0_CAP0/CT32B0_MAT0 (io), 17 PIO0_2/TXD0/CT32B0_CAP1/CT32B0_MAT1 (io), 18 PIO0_3/~{DTR0}/CT32B0_CAP2/CT32B0_MAT2 (io), 19 PIO0_4/~{DSR0}/CT32B0_CAP3/CT32B0_MAT3 (io), 20 PIO0_5/~{DCD0} (io), 21 PIO0_6/~{RI0}/CT32B1_CAP0/CT32B1_MAT0 (io), 22 PIO0_7/~{CTS0}/CT32B1_CAP1/CT32B1_MAT1 (io), 23 PIO0_8/RXD1/CT32B1_CAP2/CT32B1_MAT2 (io), 24 PIO0_9/TXD1/CT32B1_CAP3/CT32B1_MAT3 (io), 25 PIO0_10/SCL (io), 26 PIO0_11/SDA/CT16B0_CAP0/CT16B0_MAT0 (io), 27 PIO0_12/CLKOUT/CT16B0_CAP1/CT16B0_MAT1 (io), 28 ~{RESET}/PIO0_13 (io), 29 PIO0_14/SCK (io), 30 PIO0_15/SSEL/CT16B1_CAP0/CT16B1_MAT0 (io), 31 PIO0_16/MISO/CT16B1_CAP1/CT16B1_MAT1 (io), 32 PIO0_17/MOSI (io), 33 PIO0_18/SWCLK/CT32B0_CAP0/CT32B0_MAT0 (io), 34 R/PIO0_30/AD0 (io), 35 R/PIO0_31/AD1 (io), 36 R/PIO1_0/AD2 (io), 37 R/PIO1_1/AD3 (io), 38 PIO1_2/SWDIO/AD4 (io), 39 PIO1_3/AD5/WAKEUP (io), 40 PIO1_4/AD6 (io), 41 PIO1_5/AD7/CT16B1_CAP0/CT16B1_MAT0 (io), 42 PIO1_6/CT16B1_CAP1/CT16B1_MAT1 (io), 43 VSS (power), 44 VDD(3V3) (power), 45 RTCXOUT, 46 RTCXIN, 47 VDD(IO) (power), 48 VSSIO (power)

## LPC1224FBD48/121
designator U?
32-bit ARM Cortex-M0 MCU, 48 kB Flash, 4 kB SRAM, RTC, Comparator, 10-Bit ADC, CRC, DMA, 48-Pin LQFP; PartNumber: LPC1224FBD48/121; fmax: 45 MHz; SRAM: 4 kB; Flash: 48 kB; GPIOs: 39; UART: 2; I2C: 1; PLL: Y; Timers: 4; ADC channels: 8; VDD (min): 3 V; VDD (typ): 3.3 V; VDD (max): 3.6 V; Code_IEC: 136E05; DatasheetVersion: Rev. 2, Aug-2011; PackageVersion: Feb-2003; PackageReference: SOT313-2; PackageDescription: LQFP48: Plastic Low Profile Quad Flat Package; 48 Leads; Body 7 x 7 x 1.4 mm; SPI: 1; SSP: 1; Code_JEDEC: MS-026; ComponentLink1Description: Manufacturer URL; ComponentLink1URL: http://www.nxp.com/; ComponentLink2Description: Datasheet; ComponentLink2URL: http://www.nxp.com/documents/data_sheet/LPC122X.pdf
footprint SOT313-2_V (Thin QFP, 48-Leads, Body 7x7mm, Pitch 0.5mm, NXP Recommended)
pins: 1 XTALIN, 2 XTALOUT, 3 VREF_CMP (power), 4 PIO0_19/ACMP0_I0/CT32B0_CAP1/CT32B0_MAT1 (io), 5 PIO0_20/ACMP0_I1/CT32B0_CAP2/CT32B0_MAT2 (io), 6 PIO0_21/ACMP0_I2/CT32B0_CAP3/CT32B0_MAT3 (io), 7 PIO0_22/ACMP0_I3 (io), 8 PIO0_23/ACMP1_I0/CT32B1_CAP0/CT32B1_MAT0 (io), 9 PIO0_24/ACMP1_I1/CT32B1_CAP1/CT32B1_MAT1 (io), 10 SWDIO/ACMP1_I2/CT32B1_CAP2/CT32B1_MAT2/PIO0_25 (io), 11 SWCLK/ACMP1_I3/CT32B1_CAP3/CT32B1_MAT3/PIO0_26 (io), 12 PIO0_27/ACMP0_O (io), 13 PIO0_28/ACMP1_O/CT16B0_CAP0/CT16B0_MAT0 (io), 14 PIO0_29/ROSC/CT16B0_CAP1/CT16B0_MAT1 (io), 15 PIO0_0/~{RTS0} (io), 16 PIO0_1/RXD0/CT32B0_CAP0/CT32B0_MAT0 (io), 17 PIO0_2/TXD0/CT32B0_CAP1/CT32B0_MAT1 (io), 18 PIO0_3/~{DTR0}/CT32B0_CAP2/CT32B0_MAT2 (io), 19 PIO0_4/~{DSR0}/CT32B0_CAP3/CT32B0_MAT3 (io), 20 PIO0_5/~{DCD0} (io), 21 PIO0_6/~{RI0}/CT32B1_CAP0/CT32B1_MAT0 (io), 22 PIO0_7/~{CTS0}/CT32B1_CAP1/CT32B1_MAT1 (io), 23 PIO0_8/RXD1/CT32B1_CAP2/CT32B1_MAT2 (io), 24 PIO0_9/TXD1/CT32B1_CAP3/CT32B1_MAT3 (io), 25 PIO0_10/SCL (io), 26 PIO0_11/SDA/CT16B0_CAP0/CT16B0_MAT0 (io), 27 PIO0_12/CLKOUT/CT16B0_CAP1/CT16B0_MAT1 (io), 28 ~{RESET}/PIO0_13 (io), 29 PIO0_14/SCK (io), 30 PIO0_15/SSEL/CT16B1_CAP0/CT16B1_MAT0 (io), 31 PIO0_16/MISO/CT16B1_CAP1/CT16B1_MAT1 (io), 32 PIO0_17/MOSI (io), 33 PIO0_18/SWCLK/CT32B0_CAP0/CT32B0_MAT0 (io), 34 R/PIO0_30/AD0 (io), 35 R/PIO0_31/AD1 (io), 36 R/PIO1_0/AD2 (io), 37 R/PIO1_1/AD3 (io), 38 PIO1_2/SWDIO/AD4 (io), 39 PIO1_3/AD5/WAKEUP (io), 40 PIO1_4/AD6 (io), 41 PIO1_5/AD7/CT16B1_CAP0/CT16B1_MAT0 (io), 42 PIO1_6/CT16B1_CAP1/CT16B1_MAT1 (io), 43 VSS (power), 44 VDD(3V3) (power), 45 RTCXOUT, 46 RTCXIN, 47 VDD(IO) (power), 48 VSSIO (power)

## LPC1224FBD64/101
designator U?
32-bit ARM Cortex-M0 MCU, 32 kB Flash, 4 kB SRAM, RTC, Comparator, 10-Bit ADC, CRC, DMA, 64-Pin LQFP; PartNumber: LPC1224FBD64/101; fmax: 45 MHz; SRAM: 4 kB; Flash: 32 kB; GPIOs: 55; UART: 2; I2C: 1; PLL: Y; Timers: 4; ADC channels: 8; VDD (min): 3 V; VDD (typ): 3.3 V; VDD (max): 3.6 V; Code_IEC: 136E10; DatasheetVersion: Rev. 2, Aug-2011; PackageVersion: Feb-2003; PackageReference: SOT314-2; PackageDescription: LQFP64: Plastic Low Profile Quad Flat Package; 64 Leads; Body 10 x 10 x 1.4 mm; SPI: 1; SSP: 1; Code_JEDEC: MS-026; ComponentLink1Description: Manufacturer URL; ComponentLink1URL: http://www.nxp.com/; ComponentLink2Description: Datasheet; ComponentLink2URL: http://www.nxp.com/documents/data_sheet/LPC122X.pdf
footprint SOT314-2_V (Thin QFP, 64-Leads, Body 10x10mm, Pitch 0.5mm, NXP Recommended)
pins: 1 XTALIN, 2 XTALOUT, 3 VREF_CMP (power), 4 PIO0_19/ACMP0_I0/CT32B0_CAP1/CT32B0_MAT1 (io), 5 PIO0_20/ACMP0_I1/CT32B0_CAP2/CT32B0_MAT2 (io), 6 PIO0_21/ACMP0_I2/CT32B0_CAP3/CT32B0_MAT3 (io), 7 PIO0_22/ACMP0_I3 (io), 8 PIO0_23/ACMP1_I0/CT32B1_CAP0/CT32B1_MAT0 (io), 9 PIO0_24/ACMP1_I1/CT32B1_CAP1/CT32B1_MAT1 (io), 10 SWDIO/ACMP1_I2/CT32B1_CAP2/CT32B1_MAT2/PIO0_25 (io), 11 SWCLK/ACMP1_I3/CT32B1_CAP3/CT32B1_MAT3/PIO0_26 (io), 12 PIO0_27/ACMP0_O (io), 13 PIO2_12/RXD1 (io), 14 PIO2_13/TXD1 (io), 15 PIO2_14 (io), 16 PIO2_15 (io), 17 PIO0_28/ACMP1_O/CT16B0_CAP0/CT16B0_MAT0 (io), 18 PIO0_29/ROSC/CT16B0_CAP1/CT16B0_MAT1 (io), 19 PIO0_0/~{RTS0} (io), 20 PIO0_1/RXD0/CT32B0_CAP0/CT32B0_MAT0 (io), 21 PIO0_2/TXD0/CT32B0_CAP1/CT32B0_MAT1 (io), 22 PIO0_3/~{DTR0}/CT32B0_CAP2/CT32B0_MAT2 (io), 23 PIO0_4/~{DSR0}/CT32B0_CAP3/CT32B0_MAT3 (io), 24 PIO0_5/~{DCD0} (io), 25 PIO0_6/~{RI0}/CT32B1_CAP0/CT32B1_MAT0 (io), 26 PIO0_7/~{CTS0}/CT32B1_CAP1/CT32B1_MAT1 (io), 27 PIO0_8/RXD1/CT32B1_CAP2/CT32B1_MAT2 (io), 28 PIO0_9/TXD1/CT32B1_CAP3/CT32B1_MAT3 (io), 29 PIO2_0/CT16B0_CAP0/CT16B0_MAT0/~{RTS0} (io), 30 PIO2_1/CT16B0_CAP1/CT16B0_MAT1/RXD0 (io), 31 PIO2_2/CT16B1_CAP0/CT16B1_MAT0/TXD0 (io), 32 PIO2_3/CT16B1_CAP1/CT16B1_MAT1/~{DTR0} (io), 33 PIO2_4/CT32B0_CAP0/CT32B0_MAT0/~{CTS0} (io), 34 PIO2_5/CT32B0_CAP1/CT32B0_MAT1/~{RI0} (io), 35 PIO2_6/CT32B0_CAP2/CT32B0_MAT2/~{DCD0} (io), 36 PIO2_7/CT32B0_CAP3/CT32B0_MAT3/~{DSR0} (io), 37 PIO0_10/SCL (io), 38 PIO0_11/SDA/CT16B0_CAP0/CT16B0_MAT0 (io), 39 PIO0_12/CLKOUT/CT16B0_CAP1/CT16B0_MAT1 (io), 40 ~{RESET}/PIO0_13 (io), 41 PIO0_14/SCK (io), 42 PIO0_15/SSEL/CT16B1_CAP0/CT16B1_MAT0 (io), 43 PIO0_16/MISO/CT16B1_CAP1/CT16B1_MAT1 (io), 44 PIO0_17/MOSI (io), 45 PIO0_18/SWCLK/CT32B0_CAP0/CT32B0_MAT0 (io), 46 R/PIO0_30/AD0 (io), 47 R/PIO0_31/AD1 (io), 48 R/PIO1_0/AD2 (io), 49 R/PIO1_1/AD3 (io), 50 PIO1_2/SWDIO/AD4 (io), 51 PIO1_3/AD5/WAKEUP (io), 52 PIO1_4/AD6 (io), 53 PIO1_5/AD7/CT16B1_CAP0/CT16B1_MAT0 (io), 54 PIO1_6/CT16B1_CAP1/CT16B1_MAT1 (io), 55 VSS (power), 56 VDD(3V3) (power), 57 RTCXOUT, 58 RTCXIN, 59 PIO2_8/CT32B1_CAP0/CT32B1_MAT0 (io), 60 PIO2_9/CT32B1_CAP1/CT32B1_MAT1 (io), 61 PIO2_10/CT32B1_CAP2/CT32B1_MAT2/TXD1 (io), 62 PIO2_11/CT32B1_CAP3/CT32B1_MAT3/RXD1 (io), 63 VDD(IO) (power), 64 VSSIO (power)

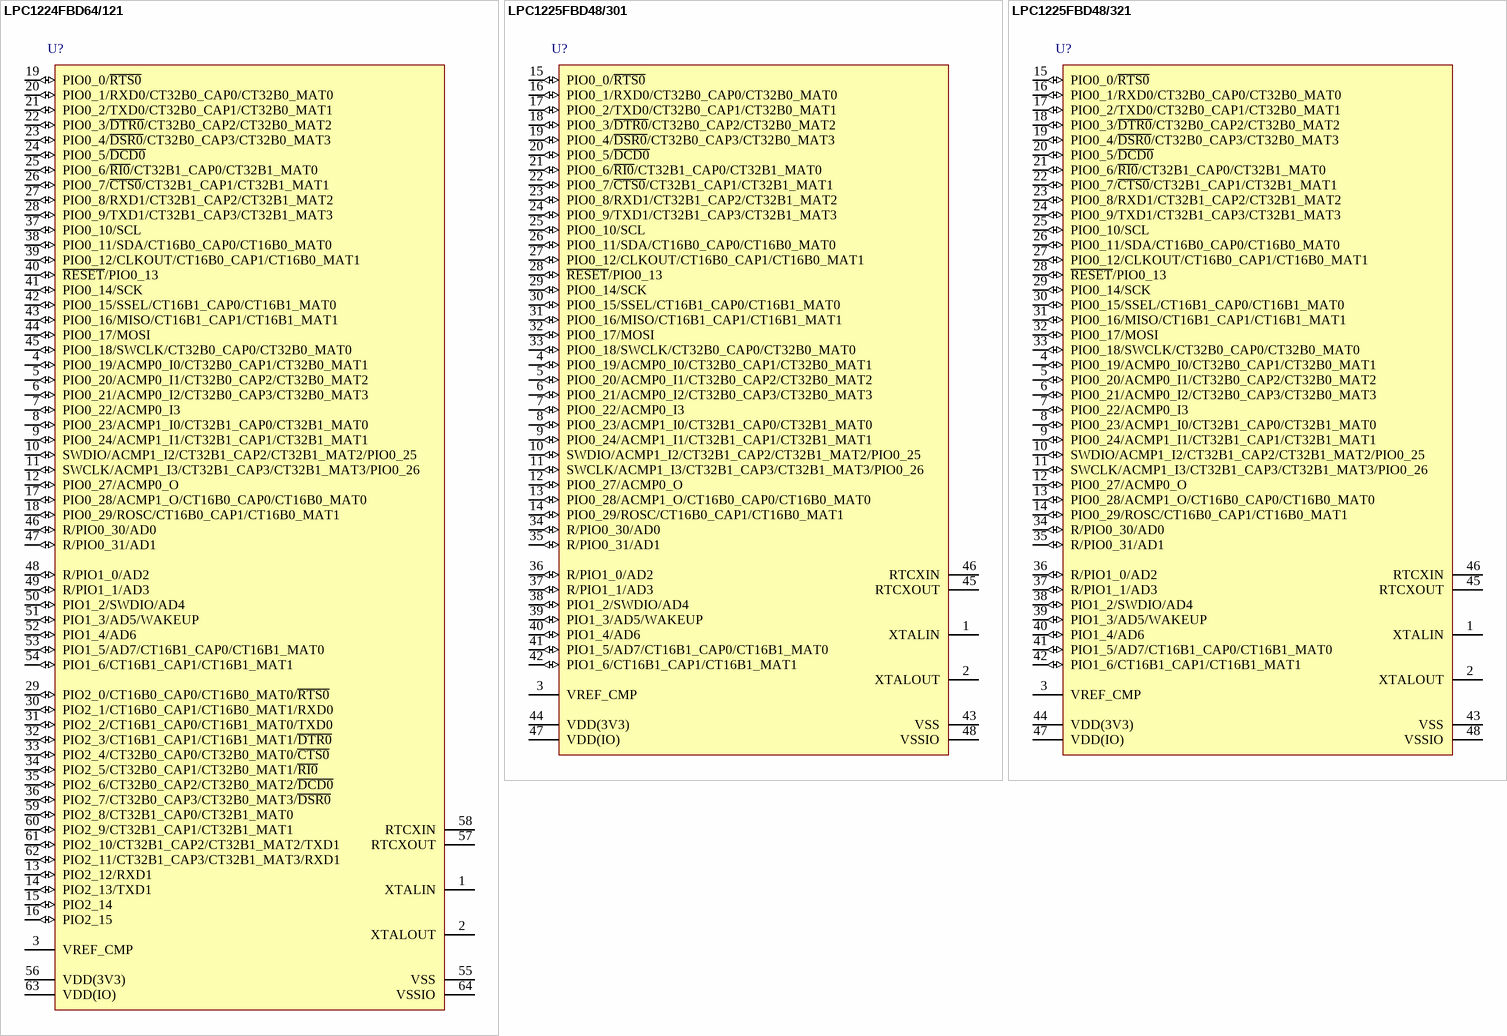
[diagram p14: symbols LPC1224FBD64/121 to LPC1225FBD48/321]

## LPC1224FBD64/121
designator U?
32-bit ARM Cortex-M0 MCU, 48 kB Flash, 4 kB SRAM, RTC, Comparator, 10-Bit ADC, CRC, DMA, 64-Pin LQFP; PartNumber: LPC1224FBD64/121; fmax: 45 MHz; SRAM: 4 kB; Flash: 48 kB; GPIOs: 55; UART: 2; I2C: 1; PLL: Y; Timers: 4; ADC channels: 8; VDD (min): 3 V; VDD (typ): 3.3 V; VDD (max): 3.6 V; Code_IEC: 136E10; DatasheetVersion: Rev. 2, Aug-2011; PackageVersion: Feb-2003; PackageReference: SOT314-2; PackageDescription: LQFP64: Plastic Low Profile Quad Flat Package; 64 Leads; Body 10 x 10 x 1.4 mm; SPI: 1; SSP: 1; Code_JEDEC: MS-026; ComponentLink1Description: Manufacturer URL; ComponentLink1URL: http://www.nxp.com/; ComponentLink2Description: Datasheet; ComponentLink2URL: http://www.nxp.com/documents/data_sheet/LPC122X.pdf
footprint SOT314-2_V (Thin QFP, 64-Leads, Body 10x10mm, Pitch 0.5mm, NXP Recommended)
pins: 1 XTALIN, 2 XTALOUT, 3 VREF_CMP (power), 4 PIO0_19/ACMP0_I0/CT32B0_CAP1/CT32B0_MAT1 (io), 5 PIO0_20/ACMP0_I1/CT32B0_CAP2/CT32B0_MAT2 (io), 6 PIO0_21/ACMP0_I2/CT32B0_CAP3/CT32B0_MAT3 (io), 7 PIO0_22/ACMP0_I3 (io), 8 PIO0_23/ACMP1_I0/CT32B1_CAP0/CT32B1_MAT0 (io), 9 PIO0_24/ACMP1_I1/CT32B1_CAP1/CT32B1_MAT1 (io), 10 SWDIO/ACMP1_I2/CT32B1_CAP2/CT32B1_MAT2/PIO0_25 (io), 11 SWCLK/ACMP1_I3/CT32B1_CAP3/CT32B1_MAT3/PIO0_26 (io), 12 PIO0_27/ACMP0_O (io), 13 PIO2_12/RXD1 (io), 14 PIO2_13/TXD1 (io), 15 PIO2_14 (io), 16 PIO2_15 (io), 17 PIO0_28/ACMP1_O/CT16B0_CAP0/CT16B0_MAT0 (io), 18 PIO0_29/ROSC/CT16B0_CAP1/CT16B0_MAT1 (io), 19 PIO0_0/~{RTS0} (io), 20 PIO0_1/RXD0/CT32B0_CAP0/CT32B0_MAT0 (io), 21 PIO0_2/TXD0/CT32B0_CAP1/CT32B0_MAT1 (io), 22 PIO0_3/~{DTR0}/CT32B0_CAP2/CT32B0_MAT2 (io), 23 PIO0_4/~{DSR0}/CT32B0_CAP3/CT32B0_MAT3 (io), 24 PIO0_5/~{DCD0} (io), 25 PIO0_6/~{RI0}/CT32B1_CAP0/CT32B1_MAT0 (io), 26 PIO0_7/~{CTS0}/CT32B1_CAP1/CT32B1_MAT1 (io), 27 PIO0_8/RXD1/CT32B1_CAP2/CT32B1_MAT2 (io), 28 PIO0_9/TXD1/CT32B1_CAP3/CT32B1_MAT3 (io), 29 PIO2_0/CT16B0_CAP0/CT16B0_MAT0/~{RTS0} (io), 30 PIO2_1/CT16B0_CAP1/CT16B0_MAT1/RXD0 (io), 31 PIO2_2/CT16B1_CAP0/CT16B1_MAT0/TXD0 (io), 32 PIO2_3/CT16B1_CAP1/CT16B1_MAT1/~{DTR0} (io), 33 PIO2_4/CT32B0_CAP0/CT32B0_MAT0/~{CTS0} (io), 34 PIO2_5/CT32B0_CAP1/CT32B0_MAT1/~{RI0} (io), 35 PIO2_6/CT32B0_CAP2/CT32B0_MAT2/~{DCD0} (io), 36 PIO2_7/CT32B0_CAP3/CT32B0_MAT3/~{DSR0} (io), 37 PIO0_10/SCL (io), 38 PIO0_11/SDA/CT16B0_CAP0/CT16B0_MAT0 (io), 39 PIO0_12/CLKOUT/CT16B0_CAP1/CT16B0_MAT1 (io), 40 ~{RESET}/PIO0_13 (io), 41 PIO0_14/SCK (io), 42 PIO0_15/SSEL/CT16B1_CAP0/CT16B1_MAT0 (io), 43 PIO0_16/MISO/CT16B1_CAP1/CT16B1_MAT1 (io), 44 PIO0_17/MOSI (io), 45 PIO0_18/SWCLK/CT32B0_CAP0/CT32B0_MAT0 (io), 46 R/PIO0_30/AD0 (io), 47 R/PIO0_31/AD1 (io), 48 R/PIO1_0/AD2 (io), 49 R/PIO1_1/AD3 (io), 50 PIO1_2/SWDIO/AD4 (io), 51 PIO1_3/AD5/WAKEUP (io), 52 PIO1_4/AD6 (io), 53 PIO1_5/AD7/CT16B1_CAP0/CT16B1_MAT0 (io), 54 PIO1_6/CT16B1_CAP1/CT16B1_MAT1 (io), 55 VSS (power), 56 VDD(3V3) (power), 57 RTCXOUT, 58 RTCXIN, 59 PIO2_8/CT32B1_CAP0/CT32B1_MAT0 (io), 60 PIO2_9/CT32B1_CAP1/CT32B1_MAT1 (io), 61 PIO2_10/CT32B1_CAP2/CT32B1_MAT2/TXD1 (io), 62 PIO2_11/CT32B1_CAP3/CT32B1_MAT3/RXD1 (io), 63 VDD(IO) (power), 64 VSSIO (power)

## LPC1225FBD48/301
designator U?
32-bit ARM Cortex-M0 MCU, 64 kB Flash, 8 kB SRAM, RTC, Comparator, 10-Bit ADC, CRC, DMA, 48-Pin LQFP; PartNumber: LPC1225FBD48/301; fmax: 45 MHz; SRAM: 8 kB; Flash: 64 kB; GPIOs: 39; UART: 2; I2C: 1; PLL: Y; Timers: 4; ADC channels: 8; VDD (min): 3 V; VDD (typ): 3.3 V; VDD (max): 3.6 V; Code_IEC: 136E05; DatasheetVersion: Rev. 2, Aug-2011; PackageVersion: Feb-2003; PackageReference: SOT313-2; PackageDescription: LQFP48: Plastic Low Profile Quad Flat Package; 48 Leads; Body 7 x 7 x 1.4 mm; SPI: 1; SSP: 1; Code_JEDEC: MS-026; ComponentLink1Description: Manufacturer URL; ComponentLink1URL: http://www.nxp.com/; ComponentLink2Description: Datasheet; ComponentLink2URL: http://www.nxp.com/documents/data_sheet/LPC122X.pdf
footprint SOT313-2_V (Thin QFP, 48-Leads, Body 7x7mm, Pitch 0.5mm, NXP Recommended)
pins: 1 XTALIN, 2 XTALOUT, 3 VREF_CMP (power), 4 PIO0_19/ACMP0_I0/CT32B0_CAP1/CT32B0_MAT1 (io), 5 PIO0_20/ACMP0_I1/CT32B0_CAP2/CT32B0_MAT2 (io), 6 PIO0_21/ACMP0_I2/CT32B0_CAP3/CT32B0_MAT3 (io), 7 PIO0_22/ACMP0_I3 (io), 8 PIO0_23/ACMP1_I0/CT32B1_CAP0/CT32B1_MAT0 (io), 9 PIO0_24/ACMP1_I1/CT32B1_CAP1/CT32B1_MAT1 (io), 10 SWDIO/ACMP1_I2/CT32B1_CAP2/CT32B1_MAT2/PIO0_25 (io), 11 SWCLK/ACMP1_I3/CT32B1_CAP3/CT32B1_MAT3/PIO0_26 (io), 12 PIO0_27/ACMP0_O (io), 13 PIO0_28/ACMP1_O/CT16B0_CAP0/CT16B0_MAT0 (io), 14 PIO0_29/ROSC/CT16B0_CAP1/CT16B0_MAT1 (io), 15 PIO0_0/~{RTS0} (io), 16 PIO0_1/RXD0/CT32B0_CAP0/CT32B0_MAT0 (io), 17 PIO0_2/TXD0/CT32B0_CAP1/CT32B0_MAT1 (io), 18 PIO0_3/~{DTR0}/CT32B0_CAP2/CT32B0_MAT2 (io), 19 PIO0_4/~{DSR0}/CT32B0_CAP3/CT32B0_MAT3 (io), 20 PIO0_5/~{DCD0} (io), 21 PIO0_6/~{RI0}/CT32B1_CAP0/CT32B1_MAT0 (io), 22 PIO0_7/~{CTS0}/CT32B1_CAP1/CT32B1_MAT1 (io), 23 PIO0_8/RXD1/CT32B1_CAP2/CT32B1_MAT2 (io), 24 PIO0_9/TXD1/CT32B1_CAP3/CT32B1_MAT3 (io), 25 PIO0_10/SCL (io), 26 PIO0_11/SDA/CT16B0_CAP0/CT16B0_MAT0 (io), 27 PIO0_12/CLKOUT/CT16B0_CAP1/CT16B0_MAT1 (io), 28 ~{RESET}/PIO0_13 (io), 29 PIO0_14/SCK (io), 30 PIO0_15/SSEL/CT16B1_CAP0/CT16B1_MAT0 (io), 31 PIO0_16/MISO/CT16B1_CAP1/CT16B1_MAT1 (io), 32 PIO0_17/MOSI (io), 33 PIO0_18/SWCLK/CT32B0_CAP0/CT32B0_MAT0 (io), 34 R/PIO0_30/AD0 (io), 35 R/PIO0_31/AD1 (io), 36 R/PIO1_0/AD2 (io), 37 R/PIO1_1/AD3 (io), 38 PIO1_2/SWDIO/AD4 (io), 39 PIO1_3/AD5/WAKEUP (io), 40 PIO1_4/AD6 (io), 41 PIO1_5/AD7/CT16B1_CAP0/CT16B1_MAT0 (io), 42 PIO1_6/CT16B1_CAP1/CT16B1_MAT1 (io), 43 VSS (power), 44 VDD(3V3) (power), 45 RTCXOUT, 46 RTCXIN, 47 VDD(IO) (power), 48 VSSIO (power)

## LPC1225FBD48/321
designator U?
32-bit ARM Cortex-M0 MCU, 80 kB Flash, 8 kB SRAM, RTC, Comparator, 10-Bit ADC, CRC, DMA, 48-Pin LQFP; PartNumber: LPC1225FBD48/321; fmax: 45 MHz; SRAM: 8 kB; Flash: 80 kB; GPIOs: 39; UART: 2; I2C: 1; PLL: Y; Timers: 4; ADC channels: 8; VDD (min): 3 V; VDD (typ): 3.3 V; VDD (max): 3.6 V; Code_IEC: 136E05; DatasheetVersion: Rev. 2, Aug-2011; PackageVersion: Feb-2003; PackageReference: SOT313-2; PackageDescription: LQFP48: Plastic Low Profile Quad Flat Package; 48 Leads; Body 7 x 7 x 1.4 mm; SPI: 1; SSP: 1; Code_JEDEC: MS-026; ComponentLink1Description: Manufacturer URL; ComponentLink1URL: http://www.nxp.com/; ComponentLink2Description: Datasheet; ComponentLink2URL: http://www.nxp.com/documents/data_sheet/LPC122X.pdf
footprint SOT313-2_V (Thin QFP, 48-Leads, Body 7x7mm, Pitch 0.5mm, NXP Recommended)
pins: 1 XTALIN, 2 XTALOUT, 3 VREF_CMP (power), 4 PIO0_19/ACMP0_I0/CT32B0_CAP1/CT32B0_MAT1 (io), 5 PIO0_20/ACMP0_I1/CT32B0_CAP2/CT32B0_MAT2 (io), 6 PIO0_21/ACMP0_I2/CT32B0_CAP3/CT32B0_MAT3 (io), 7 PIO0_22/ACMP0_I3 (io), 8 PIO0_23/ACMP1_I0/CT32B1_CAP0/CT32B1_MAT0 (io), 9 PIO0_24/ACMP1_I1/CT32B1_CAP1/CT32B1_MAT1 (io), 10 SWDIO/ACMP1_I2/CT32B1_CAP2/CT32B1_MAT2/PIO0_25 (io), 11 SWCLK/ACMP1_I3/CT32B1_CAP3/CT32B1_MAT3/PIO0_26 (io), 12 PIO0_27/ACMP0_O (io), 13 PIO0_28/ACMP1_O/CT16B0_CAP0/CT16B0_MAT0 (io), 14 PIO0_29/ROSC/CT16B0_CAP1/CT16B0_MAT1 (io), 15 PIO0_0/~{RTS0} (io), 16 PIO0_1/RXD0/CT32B0_CAP0/CT32B0_MAT0 (io), 17 PIO0_2/TXD0/CT32B0_CAP1/CT32B0_MAT1 (io), 18 PIO0_3/~{DTR0}/CT32B0_CAP2/CT32B0_MAT2 (io), 19 PIO0_4/~{DSR0}/CT32B0_CAP3/CT32B0_MAT3 (io), 20 PIO0_5/~{DCD0} (io), 21 PIO0_6/~{RI0}/CT32B1_CAP0/CT32B1_MAT0 (io), 22 PIO0_7/~{CTS0}/CT32B1_CAP1/CT32B1_MAT1 (io), 23 PIO0_8/RXD1/CT32B1_CAP2/CT32B1_MAT2 (io), 24 PIO0_9/TXD1/CT32B1_CAP3/CT32B1_MAT3 (io), 25 PIO0_10/SCL (io), 26 PIO0_11/SDA/CT16B0_CAP0/CT16B0_MAT0 (io), 27 PIO0_12/CLKOUT/CT16B0_CAP1/CT16B0_MAT1 (io), 28 ~{RESET}/PIO0_13 (io), 29 PIO0_14/SCK (io), 30 PIO0_15/SSEL/CT16B1_CAP0/CT16B1_MAT0 (io), 31 PIO0_16/MISO/CT16B1_CAP1/CT16B1_MAT1 (io), 32 PIO0_17/MOSI (io), 33 PIO0_18/SWCLK/CT32B0_CAP0/CT32B0_MAT0 (io), 34 R/PIO0_30/AD0 (io), 35 R/PIO0_31/AD1 (io), 36 R/PIO1_0/AD2 (io), 37 R/PIO1_1/AD3 (io), 38 PIO1_2/SWDIO/AD4 (io), 39 PIO1_3/AD5/WAKEUP (io), 40 PIO1_4/AD6 (io), 41 PIO1_5/AD7/CT16B1_CAP0/CT16B1_MAT0 (io), 42 PIO1_6/CT16B1_CAP1/CT16B1_MAT1 (io), 43 VSS (power), 44 VDD(3V3) (power), 45 RTCXOUT, 46 RTCXIN, 47 VDD(IO) (power), 48 VSSIO (power)

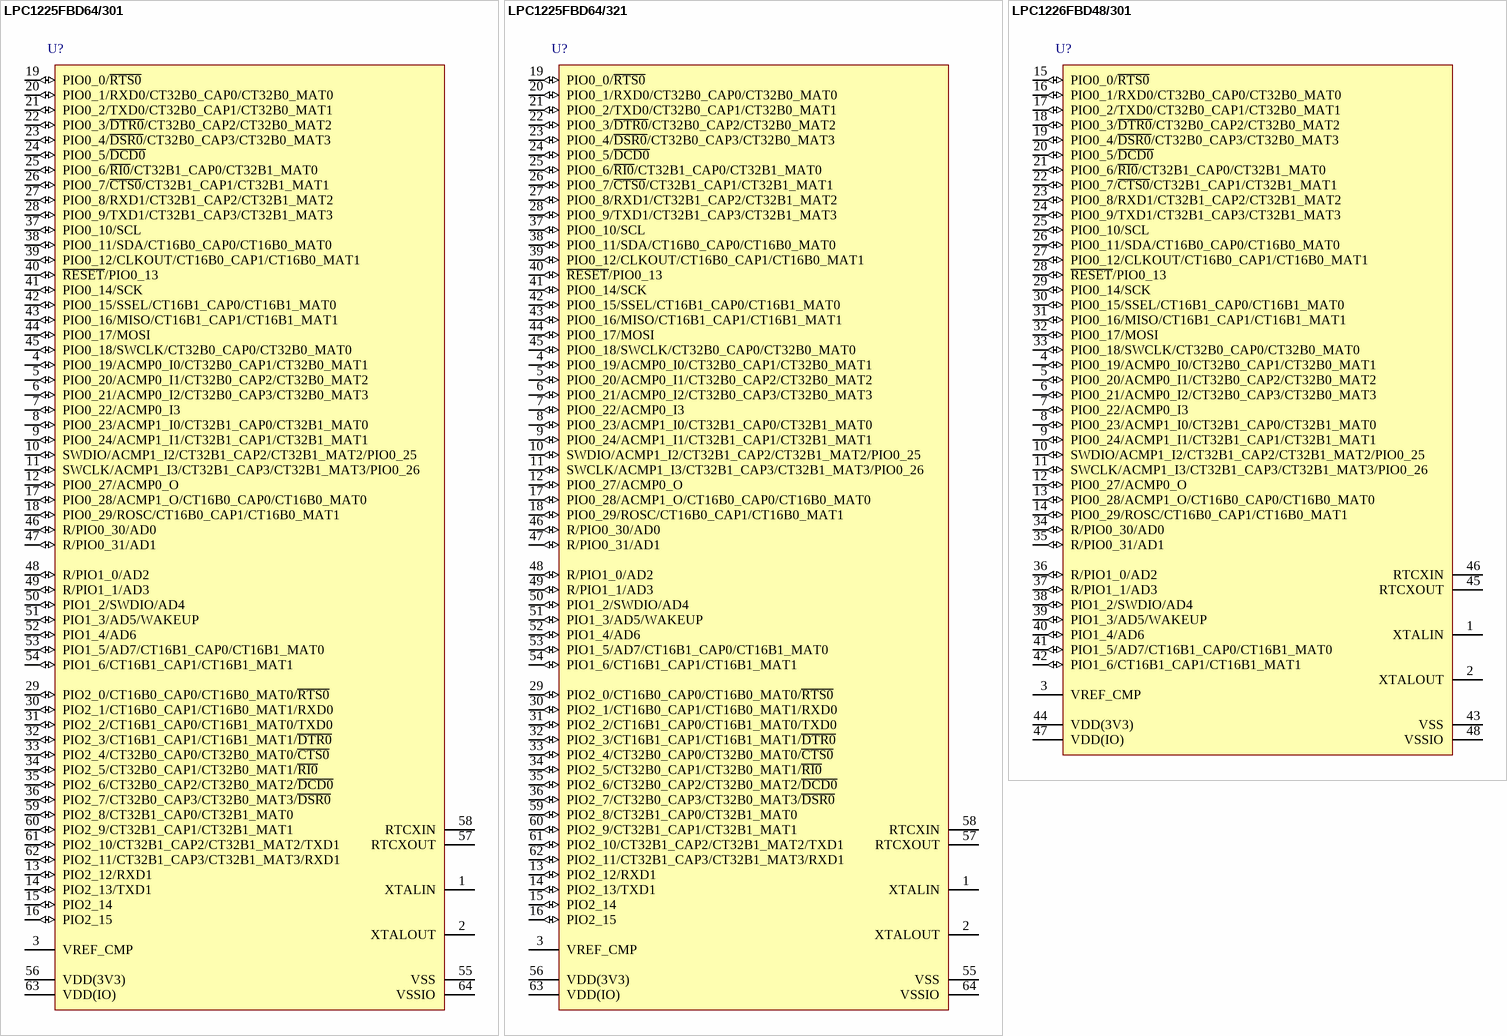
[diagram p15: symbols LPC1225FBD64/301 to LPC1226FBD48/301]

## LPC1225FBD64/301
designator U?
32-bit ARM Cortex-M0 MCU, 64 kB Flash, 8 kB SRAM, RTC, Comparator, 10-Bit ADC, CRC, DMA, 64-Pin LQFP; PartNumber: LPC1225FBD64/301; fmax: 45 MHz; SRAM: 8 kB; Flash: 64 kB; GPIOs: 55; UART: 2; I2C: 1; PLL: Y; Timers: 4; ADC channels: 8; VDD (min): 3 V; VDD (typ): 3.3 V; VDD (max): 3.6 V; Code_IEC: 136E10; DatasheetVersion: Rev. 2, Aug-2011; PackageVersion: Feb-2003; PackageReference: SOT314-2; PackageDescription: LQFP64: Plastic Low Profile Quad Flat Package; 64 Leads; Body 10 x 10 x 1.4 mm; SPI: 1; SSP: 1; Code_JEDEC: MS-026; ComponentLink1Description: Manufacturer URL; ComponentLink1URL: http://www.nxp.com/; ComponentLink2Description: Datasheet; ComponentLink2URL: http://www.nxp.com/documents/data_sheet/LPC122X.pdf
footprint SOT314-2_V (Thin QFP, 64-Leads, Body 10x10mm, Pitch 0.5mm, NXP Recommended)
pins: 1 XTALIN, 2 XTALOUT, 3 VREF_CMP (power), 4 PIO0_19/ACMP0_I0/CT32B0_CAP1/CT32B0_MAT1 (io), 5 PIO0_20/ACMP0_I1/CT32B0_CAP2/CT32B0_MAT2 (io), 6 PIO0_21/ACMP0_I2/CT32B0_CAP3/CT32B0_MAT3 (io), 7 PIO0_22/ACMP0_I3 (io), 8 PIO0_23/ACMP1_I0/CT32B1_CAP0/CT32B1_MAT0 (io), 9 PIO0_24/ACMP1_I1/CT32B1_CAP1/CT32B1_MAT1 (io), 10 SWDIO/ACMP1_I2/CT32B1_CAP2/CT32B1_MAT2/PIO0_25 (io), 11 SWCLK/ACMP1_I3/CT32B1_CAP3/CT32B1_MAT3/PIO0_26 (io), 12 PIO0_27/ACMP0_O (io), 13 PIO2_12/RXD1 (io), 14 PIO2_13/TXD1 (io), 15 PIO2_14 (io), 16 PIO2_15 (io), 17 PIO0_28/ACMP1_O/CT16B0_CAP0/CT16B0_MAT0 (io), 18 PIO0_29/ROSC/CT16B0_CAP1/CT16B0_MAT1 (io), 19 PIO0_0/~{RTS0} (io), 20 PIO0_1/RXD0/CT32B0_CAP0/CT32B0_MAT0 (io), 21 PIO0_2/TXD0/CT32B0_CAP1/CT32B0_MAT1 (io), 22 PIO0_3/~{DTR0}/CT32B0_CAP2/CT32B0_MAT2 (io), 23 PIO0_4/~{DSR0}/CT32B0_CAP3/CT32B0_MAT3 (io), 24 PIO0_5/~{DCD0} (io), 25 PIO0_6/~{RI0}/CT32B1_CAP0/CT32B1_MAT0 (io), 26 PIO0_7/~{CTS0}/CT32B1_CAP1/CT32B1_MAT1 (io), 27 PIO0_8/RXD1/CT32B1_CAP2/CT32B1_MAT2 (io), 28 PIO0_9/TXD1/CT32B1_CAP3/CT32B1_MAT3 (io), 29 PIO2_0/CT16B0_CAP0/CT16B0_MAT0/~{RTS0} (io), 30 PIO2_1/CT16B0_CAP1/CT16B0_MAT1/RXD0 (io), 31 PIO2_2/CT16B1_CAP0/CT16B1_MAT0/TXD0 (io), 32 PIO2_3/CT16B1_CAP1/CT16B1_MAT1/~{DTR0} (io), 33 PIO2_4/CT32B0_CAP0/CT32B0_MAT0/~{CTS0} (io), 34 PIO2_5/CT32B0_CAP1/CT32B0_MAT1/~{RI0} (io), 35 PIO2_6/CT32B0_CAP2/CT32B0_MAT2/~{DCD0} (io), 36 PIO2_7/CT32B0_CAP3/CT32B0_MAT3/~{DSR0} (io), 37 PIO0_10/SCL (io), 38 PIO0_11/SDA/CT16B0_CAP0/CT16B0_MAT0 (io), 39 PIO0_12/CLKOUT/CT16B0_CAP1/CT16B0_MAT1 (io), 40 ~{RESET}/PIO0_13 (io), 41 PIO0_14/SCK (io), 42 PIO0_15/SSEL/CT16B1_CAP0/CT16B1_MAT0 (io), 43 PIO0_16/MISO/CT16B1_CAP1/CT16B1_MAT1 (io), 44 PIO0_17/MOSI (io), 45 PIO0_18/SWCLK/CT32B0_CAP0/CT32B0_MAT0 (io), 46 R/PIO0_30/AD0 (io), 47 R/PIO0_31/AD1 (io), 48 R/PIO1_0/AD2 (io), 49 R/PIO1_1/AD3 (io), 50 PIO1_2/SWDIO/AD4 (io), 51 PIO1_3/AD5/WAKEUP (io), 52 PIO1_4/AD6 (io), 53 PIO1_5/AD7/CT16B1_CAP0/CT16B1_MAT0 (io), 54 PIO1_6/CT16B1_CAP1/CT16B1_MAT1 (io), 55 VSS (power), 56 VDD(3V3) (power), 57 RTCXOUT, 58 RTCXIN, 59 PIO2_8/CT32B1_CAP0/CT32B1_MAT0 (io), 60 PIO2_9/CT32B1_CAP1/CT32B1_MAT1 (io), 61 PIO2_10/CT32B1_CAP2/CT32B1_MAT2/TXD1 (io), 62 PIO2_11/CT32B1_CAP3/CT32B1_MAT3/RXD1 (io), 63 VDD(IO) (power), 64 VSSIO (power)

## LPC1225FBD64/321
designator U?
32-bit ARM Cortex-M0 MCU, 80 kB Flash, 8 kB SRAM, RTC, Comparator, 10-Bit ADC, CRC, DMA, 64-Pin LQFP; PartNumber: LPC1225FBD64/321; fmax: 45 MHz; SRAM: 8 kB; Flash: 80 kB; GPIOs: 55; UART: 2; I2C: 1; PLL: Y; Timers: 4; ADC channels: 8; VDD (min): 3 V; VDD (typ): 3.3 V; VDD (max): 3.6 V; Code_IEC: 136E10; DatasheetVersion: Rev. 2, Aug-2011; PackageVersion: Feb-2003; PackageReference: SOT314-2; PackageDescription: LQFP64: Plastic Low Profile Quad Flat Package; 64 Leads; Body 10 x 10 x 1.4 mm; SPI: 1; SSP: 1; Code_JEDEC: MS-026; ComponentLink1Description: Manufacturer URL; ComponentLink1URL: http://www.nxp.com/; ComponentLink2Description: Datasheet; ComponentLink2URL: http://www.nxp.com/documents/data_sheet/LPC122X.pdf
footprint SOT314-2_V (Thin QFP, 64-Leads, Body 10x10mm, Pitch 0.5mm, NXP Recommended)
pins: 1 XTALIN, 2 XTALOUT, 3 VREF_CMP (power), 4 PIO0_19/ACMP0_I0/CT32B0_CAP1/CT32B0_MAT1 (io), 5 PIO0_20/ACMP0_I1/CT32B0_CAP2/CT32B0_MAT2 (io), 6 PIO0_21/ACMP0_I2/CT32B0_CAP3/CT32B0_MAT3 (io), 7 PIO0_22/ACMP0_I3 (io), 8 PIO0_23/ACMP1_I0/CT32B1_CAP0/CT32B1_MAT0 (io), 9 PIO0_24/ACMP1_I1/CT32B1_CAP1/CT32B1_MAT1 (io), 10 SWDIO/ACMP1_I2/CT32B1_CAP2/CT32B1_MAT2/PIO0_25 (io), 11 SWCLK/ACMP1_I3/CT32B1_CAP3/CT32B1_MAT3/PIO0_26 (io), 12 PIO0_27/ACMP0_O (io), 13 PIO2_12/RXD1 (io), 14 PIO2_13/TXD1 (io), 15 PIO2_14 (io), 16 PIO2_15 (io), 17 PIO0_28/ACMP1_O/CT16B0_CAP0/CT16B0_MAT0 (io), 18 PIO0_29/ROSC/CT16B0_CAP1/CT16B0_MAT1 (io), 19 PIO0_0/~{RTS0} (io), 20 PIO0_1/RXD0/CT32B0_CAP0/CT32B0_MAT0 (io), 21 PIO0_2/TXD0/CT32B0_CAP1/CT32B0_MAT1 (io), 22 PIO0_3/~{DTR0}/CT32B0_CAP2/CT32B0_MAT2 (io), 23 PIO0_4/~{DSR0}/CT32B0_CAP3/CT32B0_MAT3 (io), 24 PIO0_5/~{DCD0} (io), 25 PIO0_6/~{RI0}/CT32B1_CAP0/CT32B1_MAT0 (io), 26 PIO0_7/~{CTS0}/CT32B1_CAP1/CT32B1_MAT1 (io), 27 PIO0_8/RXD1/CT32B1_CAP2/CT32B1_MAT2 (io), 28 PIO0_9/TXD1/CT32B1_CAP3/CT32B1_MAT3 (io), 29 PIO2_0/CT16B0_CAP0/CT16B0_MAT0/~{RTS0} (io), 30 PIO2_1/CT16B0_CAP1/CT16B0_MAT1/RXD0 (io), 31 PIO2_2/CT16B1_CAP0/CT16B1_MAT0/TXD0 (io), 32 PIO2_3/CT16B1_CAP1/CT16B1_MAT1/~{DTR0} (io), 33 PIO2_4/CT32B0_CAP0/CT32B0_MAT0/~{CTS0} (io), 34 PIO2_5/CT32B0_CAP1/CT32B0_MAT1/~{RI0} (io), 35 PIO2_6/CT32B0_CAP2/CT32B0_MAT2/~{DCD0} (io), 36 PIO2_7/CT32B0_CAP3/CT32B0_MAT3/~{DSR0} (io), 37 PIO0_10/SCL (io), 38 PIO0_11/SDA/CT16B0_CAP0/CT16B0_MAT0 (io), 39 PIO0_12/CLKOUT/CT16B0_CAP1/CT16B0_MAT1 (io), 40 ~{RESET}/PIO0_13 (io), 41 PIO0_14/SCK (io), 42 PIO0_15/SSEL/CT16B1_CAP0/CT16B1_MAT0 (io), 43 PIO0_16/MISO/CT16B1_CAP1/CT16B1_MAT1 (io), 44 PIO0_17/MOSI (io), 45 PIO0_18/SWCLK/CT32B0_CAP0/CT32B0_MAT0 (io), 46 R/PIO0_30/AD0 (io), 47 R/PIO0_31/AD1 (io), 48 R/PIO1_0/AD2 (io), 49 R/PIO1_1/AD3 (io), 50 PIO1_2/SWDIO/AD4 (io), 51 PIO1_3/AD5/WAKEUP (io), 52 PIO1_4/AD6 (io), 53 PIO1_5/AD7/CT16B1_CAP0/CT16B1_MAT0 (io), 54 PIO1_6/CT16B1_CAP1/CT16B1_MAT1 (io), 55 VSS (power), 56 VDD(3V3) (power), 57 RTCXOUT, 58 RTCXIN, 59 PIO2_8/CT32B1_CAP0/CT32B1_MAT0 (io), 60 PIO2_9/CT32B1_CAP1/CT32B1_MAT1 (io), 61 PIO2_10/CT32B1_CAP2/CT32B1_MAT2/TXD1 (io), 62 PIO2_11/CT32B1_CAP3/CT32B1_MAT3/RXD1 (io), 63 VDD(IO) (power), 64 VSSIO (power)

## LPC1226FBD48/301
designator U?
32-bit ARM Cortex-M0 MCU, 96 kB Flash, 8 kB SRAM, RTC, Comparator, 10-Bit ADC, CRC, DMA, 48-Pin LQFP; PartNumber: LPC1226FBD48/301; fmax: 45 MHz; SRAM: 8 kB; Flash: 96 kB; GPIOs: 39; UART: 2; I2C: 1; PLL: Y; Timers: 4; ADC channels: 8; VDD (min): 3 V; VDD (typ): 3.3 V; VDD (max): 3.6 V; Code_IEC: 136E05; DatasheetVersion: Rev. 2, Aug-2011; PackageVersion: Feb-2003; PackageReference: SOT313-2; PackageDescription: LQFP48: Plastic Low Profile Quad Flat Package; 48 Leads; Body 7 x 7 x 1.4 mm; SPI: 1; SSP: 1; Code_JEDEC: MS-026; ComponentLink1Description: Manufacturer URL; ComponentLink1URL: http://www.nxp.com/; ComponentLink2Description: Datasheet; ComponentLink2URL: http://www.nxp.com/documents/data_sheet/LPC122X.pdf
footprint SOT313-2_V (Thin QFP, 48-Leads, Body 7x7mm, Pitch 0.5mm, NXP Recommended)
pins: 1 XTALIN, 2 XTALOUT, 3 VREF_CMP (power), 4 PIO0_19/ACMP0_I0/CT32B0_CAP1/CT32B0_MAT1 (io), 5 PIO0_20/ACMP0_I1/CT32B0_CAP2/CT32B0_MAT2 (io), 6 PIO0_21/ACMP0_I2/CT32B0_CAP3/CT32B0_MAT3 (io), 7 PIO0_22/ACMP0_I3 (io), 8 PIO0_23/ACMP1_I0/CT32B1_CAP0/CT32B1_MAT0 (io), 9 PIO0_24/ACMP1_I1/CT32B1_CAP1/CT32B1_MAT1 (io), 10 SWDIO/ACMP1_I2/CT32B1_CAP2/CT32B1_MAT2/PIO0_25 (io), 11 SWCLK/ACMP1_I3/CT32B1_CAP3/CT32B1_MAT3/PIO0_26 (io), 12 PIO0_27/ACMP0_O (io), 13 PIO0_28/ACMP1_O/CT16B0_CAP0/CT16B0_MAT0 (io), 14 PIO0_29/ROSC/CT16B0_CAP1/CT16B0_MAT1 (io), 15 PIO0_0/~{RTS0} (io), 16 PIO0_1/RXD0/CT32B0_CAP0/CT32B0_MAT0 (io), 17 PIO0_2/TXD0/CT32B0_CAP1/CT32B0_MAT1 (io), 18 PIO0_3/~{DTR0}/CT32B0_CAP2/CT32B0_MAT2 (io), 19 PIO0_4/~{DSR0}/CT32B0_CAP3/CT32B0_MAT3 (io), 20 PIO0_5/~{DCD0} (io), 21 PIO0_6/~{RI0}/CT32B1_CAP0/CT32B1_MAT0 (io), 22 PIO0_7/~{CTS0}/CT32B1_CAP1/CT32B1_MAT1 (io), 23 PIO0_8/RXD1/CT32B1_CAP2/CT32B1_MAT2 (io), 24 PIO0_9/TXD1/CT32B1_CAP3/CT32B1_MAT3 (io), 25 PIO0_10/SCL (io), 26 PIO0_11/SDA/CT16B0_CAP0/CT16B0_MAT0 (io), 27 PIO0_12/CLKOUT/CT16B0_CAP1/CT16B0_MAT1 (io), 28 ~{RESET}/PIO0_13 (io), 29 PIO0_14/SCK (io), 30 PIO0_15/SSEL/CT16B1_CAP0/CT16B1_MAT0 (io), 31 PIO0_16/MISO/CT16B1_CAP1/CT16B1_MAT1 (io), 32 PIO0_17/MOSI (io), 33 PIO0_18/SWCLK/CT32B0_CAP0/CT32B0_MAT0 (io), 34 R/PIO0_30/AD0 (io), 35 R/PIO0_31/AD1 (io), 36 R/PIO1_0/AD2 (io), 37 R/PIO1_1/AD3 (io), 38 PIO1_2/SWDIO/AD4 (io), 39 PIO1_3/AD5/WAKEUP (io), 40 PIO1_4/AD6 (io), 41 PIO1_5/AD7/CT16B1_CAP0/CT16B1_MAT0 (io), 42 PIO1_6/CT16B1_CAP1/CT16B1_MAT1 (io), 43 VSS (power), 44 VDD(3V3) (power), 45 RTCXOUT, 46 RTCXIN, 47 VDD(IO) (power), 48 VSSIO (power)

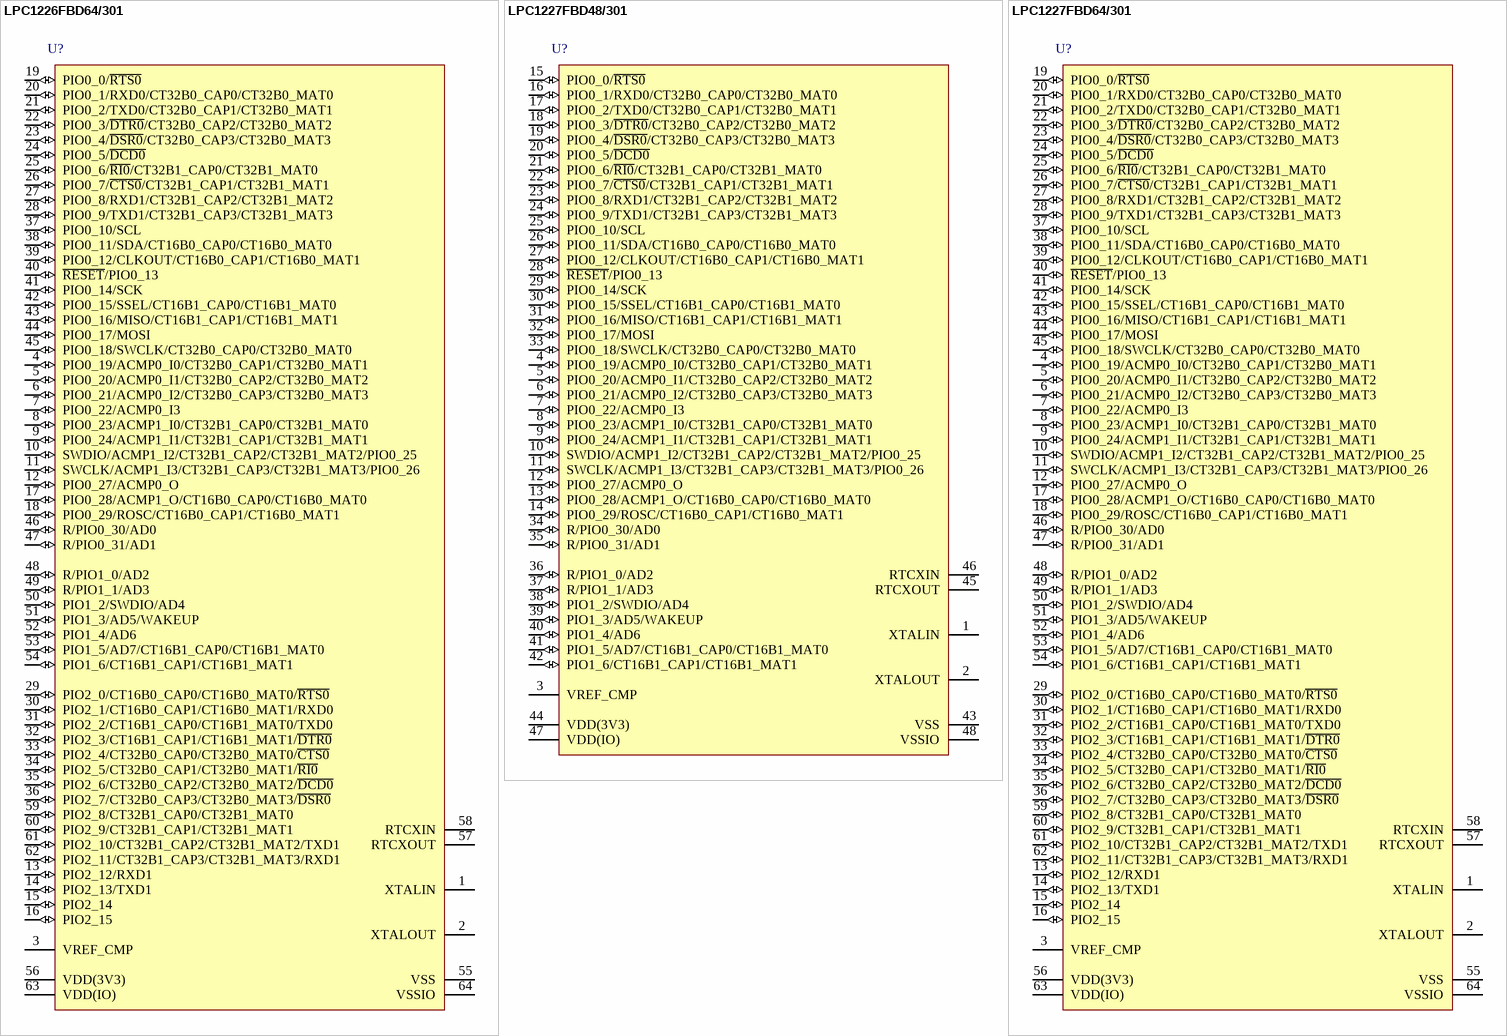
[diagram p16: symbols LPC1226FBD64/301 to LPC1227FBD64/301]